# Altium integrated library Altera MAX 7000S.IntLib: 338 symbols (part 2 of 20)
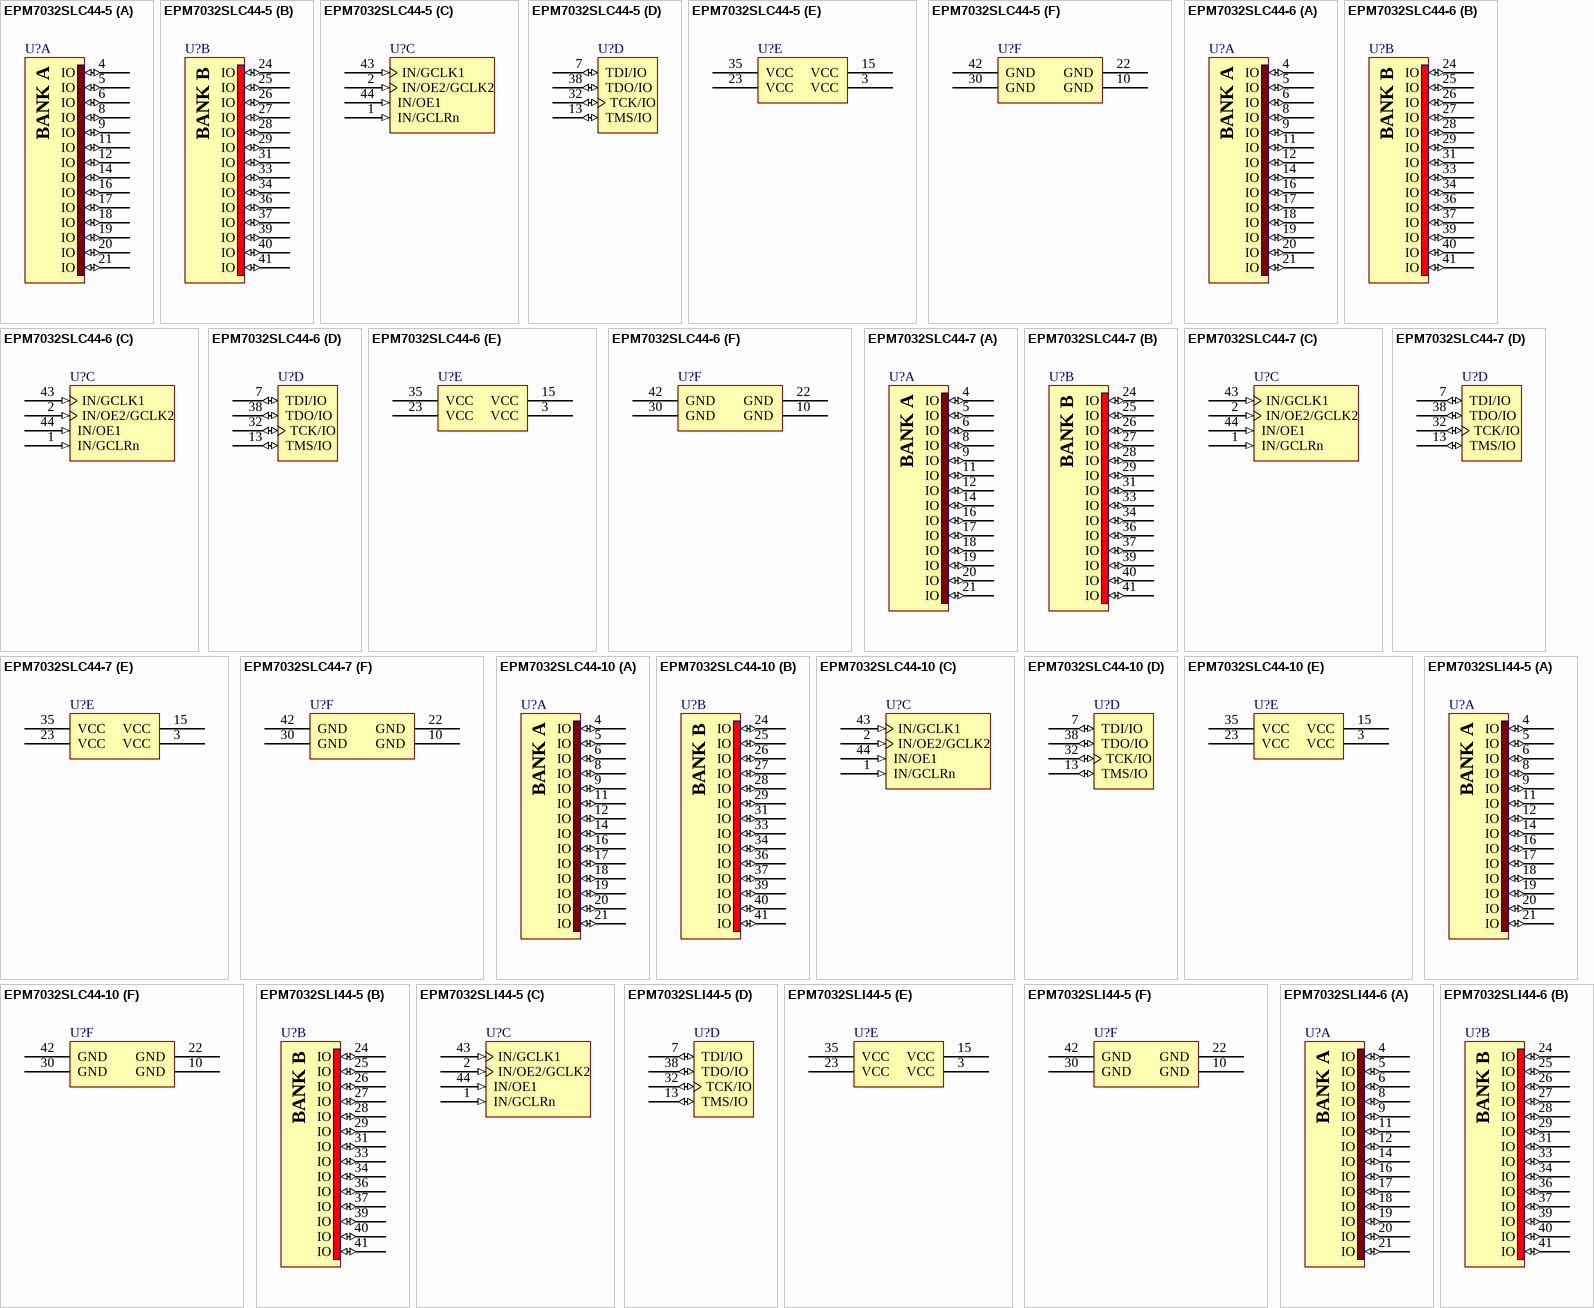
[diagram p105: symbols EPM7032SLC44-5 to EPM7032SLI44-6]

## EPM7032SLC44-7
designator U?
MAX 7000S 5V In-System Programmable CPLD, 32 Macrocells, 44-Pin PLCC, Speed Grade 7, Commercial Grade; Published: 24-Nov-2000; LatestRevisionDate: 13-Apr-2006; LatestRevisionNote: IPC-7351 Footprint Added.; DatasheetVersion: ver6.7, Sep-2005; PackageVersion: ver14.3, Jul-2006; PackageReference: PLCC44; Publisher: Altium Limited; PackageDescription: 44-Pin Plastic J-Lead Chip Carrier (PLCC44); Supplier 1: Digi-Key; Supplier Part Number 1: 544-1183-5-ND; Code_JEDEC: MS-018-AC; Code_IPC: PLCC-44; ComponentLink1Description: Manufacturer Link; ComponentLink1URL: http://www.altera.com/products/devices/max7k/m7k-index.html; ComponentLink2Description: Datasheet; ComponentLink2URL: http://www.altera.com/literature/ds/m7000.pdf; ComponentLink3Description: Packaging Specification; ComponentLink3URL: http://www.altera.com/literature/ds/dspkg.pdf
footprint PLCC44_N (Leaded Chip Carrier, 44-Leads, Body 16.6x16.6mm, Pitch 1.27mm, IPC Medium Density)
footprint PLCC44_L (Leaded Chip Carrier, 44-Leads, Body 16.6x16.6mm, Pitch 1.27mm, IPC High Density)
footprint PLCC44_M (Leaded Chip Carrier, 44-Leads, Body 16.6x16.6mm, Pitch 1.27mm, IPC Low Density)
3D model EPM7032S-PLCC44 (44-Pin Plastic J-Lead Chip Carrier (PLCC44))
signal-integrity model 7k (MAX 7000S)
part A pins: 4 IO (io), 5 IO (io), 6 IO (io), 8 IO (io), 9 IO (io), 11 IO (io), 12 IO (io), 14 IO (io), 16 IO (io), 17 IO (io), 18 IO (io), 19 IO (io), 20 IO (io), 21 IO (io)
part B pins: 24 IO (io), 25 IO (io), 26 IO (io), 27 IO (io), 28 IO (io), 29 IO (io), 31 IO (io), 33 IO (io), 34 IO (io), 36 IO (io), 37 IO (io), 39 IO (io), 40 IO (io), 41 IO (io)
part C pins: 1 IN/GCLRn (in), 2 IN/OE2/GCLK2 (in), 43 IN/GCLK1 (in), 44 IN/OE1 (in)
part D pins: 7 TDI/IO (io), 13 TMS/IO (io), 32 TCK/IO (io), 38 TDO/IO (io)
part E pins: 3 VCC (power), 15 VCC (power), 23 VCC (power), 35 VCC (power)
part F pins: 10 GND (power), 22 GND (power), 30 GND (power), 42 GND (power)
part A text: BANK A
part B text: BANK B

## EPM7032SLC44-10
designator U?
MAX 7000S 5V In-System Programmable CPLD, 32 Macrocells, 44-Pin PLCC, Speed Grade 10, Commercial Grade; Published: 24-Nov-2000; LatestRevisionDate: 13-Apr-2006; LatestRevisionNote: IPC-7351 Footprint Added.; DatasheetVersion: ver6.7, Sep-2005; PackageVersion: ver14.3, Jul-2006; PackageReference: PLCC44; Publisher: Altium Limited; PackageDescription: 44-Pin Plastic J-Lead Chip Carrier (PLCC44); Supplier 1: Digi-Key; Supplier Part Number 1: 544-1182-5-ND; Supplier 2: Farnell; Supplier Part Number 2: 3005800; Code_JEDEC: MS-018-AC; Code_IPC: PLCC-44; ComponentLink1Description: Manufacturer Link; ComponentLink1URL: http://www.altera.com/products/devices/max7k/m7k-index.html; ComponentLink2Description: Datasheet; ComponentLink2URL: http://www.altera.com/literature/ds/m7000.pdf; ComponentLink3Description: Packaging Specification; ComponentLink3URL: http://www.altera.com/literature/ds/dspkg.pdf
footprint PLCC44_N (Leaded Chip Carrier, 44-Leads, Body 16.6x16.6mm, Pitch 1.27mm, IPC Medium Density)
footprint PLCC44_L (Leaded Chip Carrier, 44-Leads, Body 16.6x16.6mm, Pitch 1.27mm, IPC High Density)
footprint PLCC44_M (Leaded Chip Carrier, 44-Leads, Body 16.6x16.6mm, Pitch 1.27mm, IPC Low Density)
3D model EPM7032S-PLCC44 (44-Pin Plastic J-Lead Chip Carrier (PLCC44))
signal-integrity model 7k (MAX 7000S)
part A pins: 4 IO (io), 5 IO (io), 6 IO (io), 8 IO (io), 9 IO (io), 11 IO (io), 12 IO (io), 14 IO (io), 16 IO (io), 17 IO (io), 18 IO (io), 19 IO (io), 20 IO (io), 21 IO (io)
part B pins: 24 IO (io), 25 IO (io), 26 IO (io), 27 IO (io), 28 IO (io), 29 IO (io), 31 IO (io), 33 IO (io), 34 IO (io), 36 IO (io), 37 IO (io), 39 IO (io), 40 IO (io), 41 IO (io)
part C pins: 1 IN/GCLRn (in), 2 IN/OE2/GCLK2 (in), 43 IN/GCLK1 (in), 44 IN/OE1 (in)
part D pins: 7 TDI/IO (io), 13 TMS/IO (io), 32 TCK/IO (io), 38 TDO/IO (io)
part E pins: 3 VCC (power), 15 VCC (power), 23 VCC (power), 35 VCC (power)
part F pins: 10 GND (power), 22 GND (power), 30 GND (power), 42 GND (power)
part A text: BANK A
part B text: BANK B

## EPM7032SLI44-5
designator U?
MAX 7000S 5V In-System Programmable CPLD, 32 Macrocells, 44-Pin PLCC, Speed Grade 5, Industrial Grade; Published: 17-Sep-2003; LatestRevisionDate: 13-Apr-2006; LatestRevisionNote: IPC-7351 Footprint Added.; DatasheetVersion: ver6.7, Sep-2005; PackageVersion: ver14.3, Jul-2006; PackageReference: PLCC44; Publisher: Altium Limited; PackageDescription: 44-Pin Plastic J-Lead Chip Carrier (PLCC44); Code_JEDEC: MS-018-AC; Code_IPC: PLCC-44; ComponentLink1Description: Manufacturer Link; ComponentLink1URL: http://www.altera.com/products/devices/max7k/m7k-index.html; ComponentLink2Description: Datasheet; ComponentLink2URL: http://www.altera.com/literature/ds/m7000.pdf; ComponentLink3Description: Packaging Specification; ComponentLink3URL: http://www.altera.com/literature/ds/dspkg.pdf
footprint PLCC44_N (Leaded Chip Carrier, 44-Leads, Body 16.6x16.6mm, Pitch 1.27mm, IPC Medium Density)
footprint PLCC44_L (Leaded Chip Carrier, 44-Leads, Body 16.6x16.6mm, Pitch 1.27mm, IPC High Density)
footprint PLCC44_M (Leaded Chip Carrier, 44-Leads, Body 16.6x16.6mm, Pitch 1.27mm, IPC Low Density)
3D model EPM7032S-PLCC44 (44-Pin Plastic J-Lead Chip Carrier (PLCC44))
signal-integrity model 7k (MAX 7000S)
part A pins: 4 IO (io), 5 IO (io), 6 IO (io), 8 IO (io), 9 IO (io), 11 IO (io), 12 IO (io), 14 IO (io), 16 IO (io), 17 IO (io), 18 IO (io), 19 IO (io), 20 IO (io), 21 IO (io)
part B pins: 24 IO (io), 25 IO (io), 26 IO (io), 27 IO (io), 28 IO (io), 29 IO (io), 31 IO (io), 33 IO (io), 34 IO (io), 36 IO (io), 37 IO (io), 39 IO (io), 40 IO (io), 41 IO (io)
part C pins: 1 IN/GCLRn (in), 2 IN/OE2/GCLK2 (in), 43 IN/GCLK1 (in), 44 IN/OE1 (in)
part D pins: 7 TDI/IO (io), 13 TMS/IO (io), 32 TCK/IO (io), 38 TDO/IO (io)
part E pins: 3 VCC (power), 15 VCC (power), 23 VCC (power), 35 VCC (power)
part F pins: 10 GND (power), 22 GND (power), 30 GND (power), 42 GND (power)
part A text: BANK A
part B text: BANK B

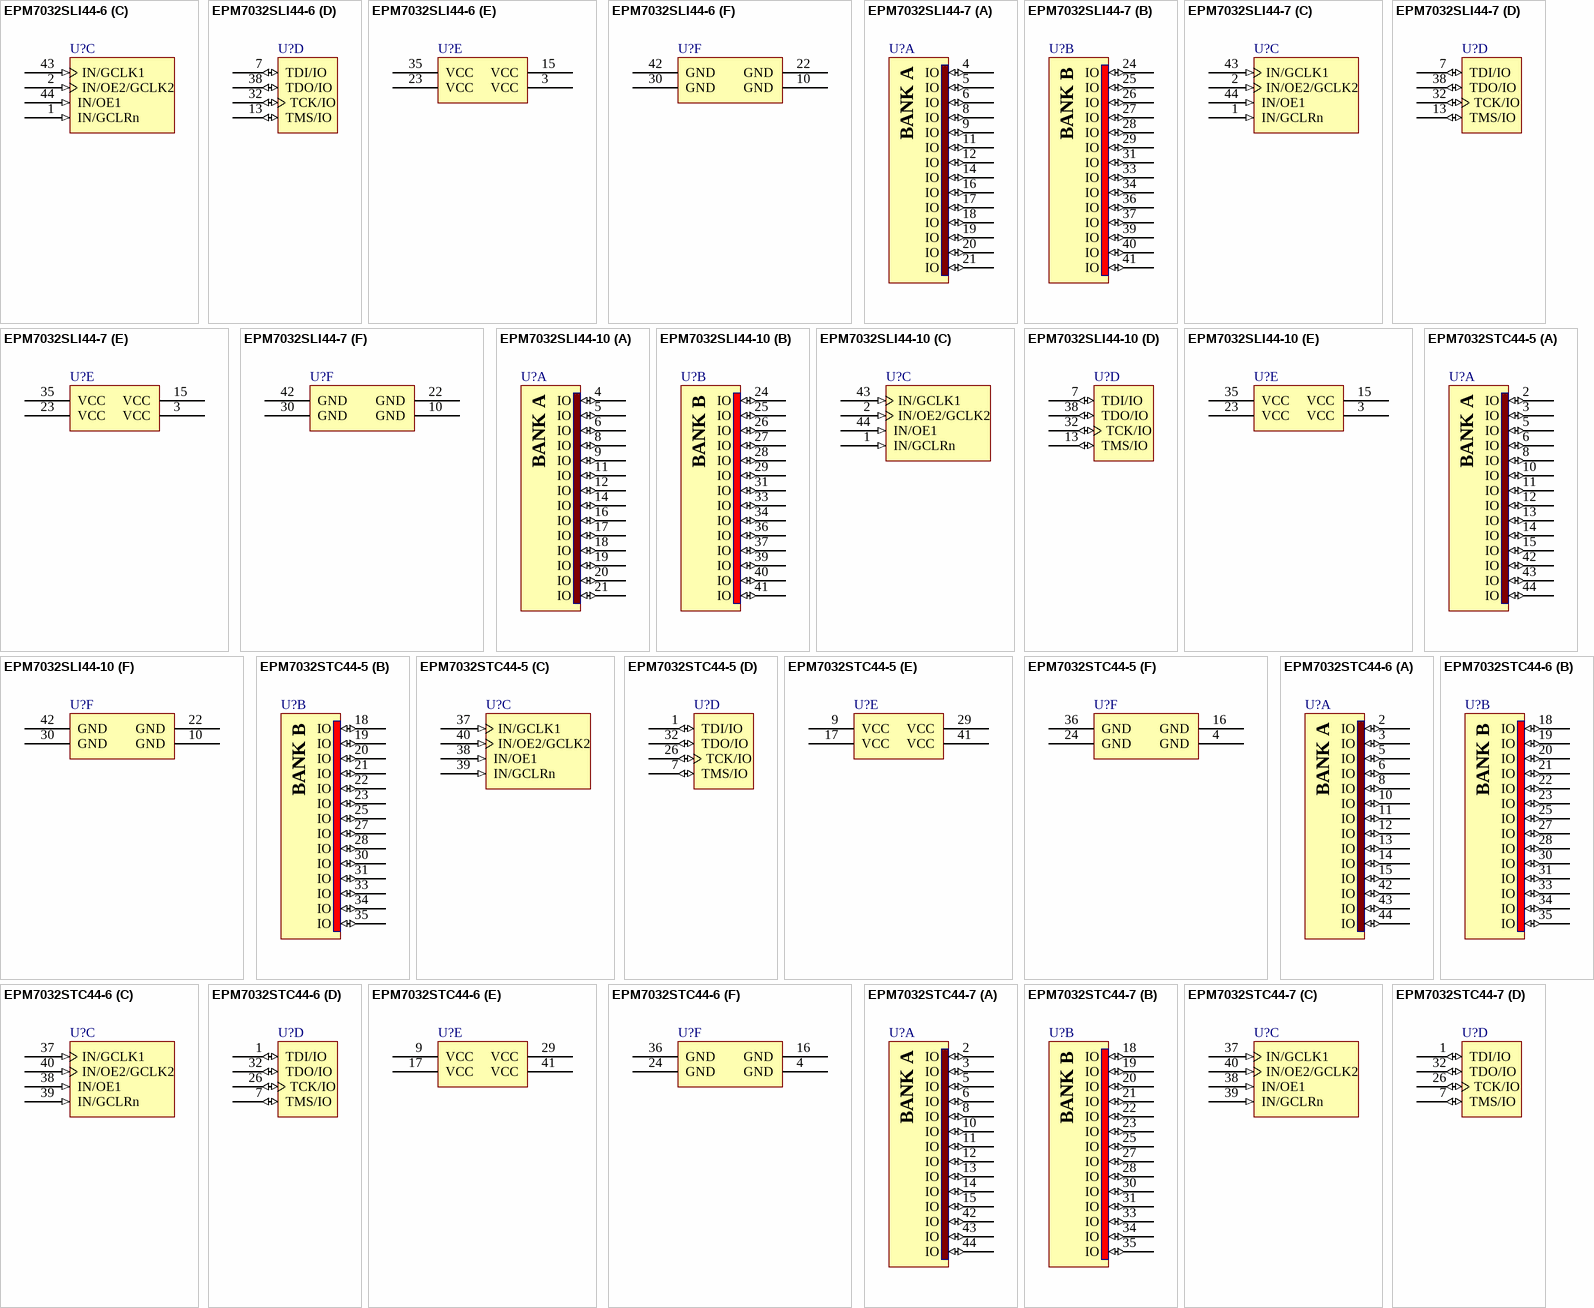
[diagram p5: symbols EPM7032SLI44-6 to EPM7032STC44-7]

## EPM7032SLI44-6
designator U?
MAX 7000S 5V In-System Programmable CPLD, 32 Macrocells, 44-Pin PLCC, Speed Grade 6, Industrial Grade; Published: 17-Sep-2003; LatestRevisionDate: 13-Apr-2006; LatestRevisionNote: IPC-7351 Footprint Added.; DatasheetVersion: ver6.7, Sep-2005; PackageVersion: ver14.3, Jul-2006; PackageReference: PLCC44; Publisher: Altium Limited; PackageDescription: 44-Pin Plastic J-Lead Chip Carrier (PLCC44); Code_JEDEC: MS-018-AC; Code_IPC: PLCC-44; ComponentLink1Description: Manufacturer Link; ComponentLink1URL: http://www.altera.com/products/devices/max7k/m7k-index.html; ComponentLink2Description: Datasheet; ComponentLink2URL: http://www.altera.com/literature/ds/m7000.pdf; ComponentLink3Description: Packaging Specification; ComponentLink3URL: http://www.altera.com/literature/ds/dspkg.pdf
footprint PLCC44_N (Leaded Chip Carrier, 44-Leads, Body 16.6x16.6mm, Pitch 1.27mm, IPC Medium Density)
footprint PLCC44_L (Leaded Chip Carrier, 44-Leads, Body 16.6x16.6mm, Pitch 1.27mm, IPC High Density)
footprint PLCC44_M (Leaded Chip Carrier, 44-Leads, Body 16.6x16.6mm, Pitch 1.27mm, IPC Low Density)
3D model EPM7032S-PLCC44 (44-Pin Plastic J-Lead Chip Carrier (PLCC44))
signal-integrity model 7k (MAX 7000S)
part A pins: 4 IO (io), 5 IO (io), 6 IO (io), 8 IO (io), 9 IO (io), 11 IO (io), 12 IO (io), 14 IO (io), 16 IO (io), 17 IO (io), 18 IO (io), 19 IO (io), 20 IO (io), 21 IO (io)
part B pins: 24 IO (io), 25 IO (io), 26 IO (io), 27 IO (io), 28 IO (io), 29 IO (io), 31 IO (io), 33 IO (io), 34 IO (io), 36 IO (io), 37 IO (io), 39 IO (io), 40 IO (io), 41 IO (io)
part C pins: 1 IN/GCLRn (in), 2 IN/OE2/GCLK2 (in), 43 IN/GCLK1 (in), 44 IN/OE1 (in)
part D pins: 7 TDI/IO (io), 13 TMS/IO (io), 32 TCK/IO (io), 38 TDO/IO (io)
part E pins: 3 VCC (power), 15 VCC (power), 23 VCC (power), 35 VCC (power)
part F pins: 10 GND (power), 22 GND (power), 30 GND (power), 42 GND (power)
part A text: BANK A
part B text: BANK B

## EPM7032SLI44-7
designator U?
MAX 7000S 5V In-System Programmable CPLD, 32 Macrocells, 44-Pin PLCC, Speed Grade 7, Industrial Grade; Published: 17-Jul-2002; LatestRevisionDate: 13-Apr-2006; LatestRevisionNote: IPC-7351 Footprint Added.; DatasheetVersion: ver6.7, Sep-2005; PackageVersion: ver14.3, Jul-2006; PackageReference: PLCC44; Publisher: Altium Limited; PackageDescription: 44-Pin Plastic J-Lead Chip Carrier (PLCC44); Supplier 1: Digi-Key; Supplier Part Number 1: 544-1184-5-ND; Code_JEDEC: MS-018-AC; Code_IPC: PLCC-44; ComponentLink1Description: Manufacturer Link; ComponentLink1URL: http://www.altera.com/products/devices/max7k/m7k-index.html; ComponentLink2Description: Datasheet; ComponentLink2URL: http://www.altera.com/literature/ds/m7000.pdf; ComponentLink3Description: Packaging Specification; ComponentLink3URL: http://www.altera.com/literature/ds/dspkg.pdf
footprint PLCC44_N (Leaded Chip Carrier, 44-Leads, Body 16.6x16.6mm, Pitch 1.27mm, IPC Medium Density)
footprint PLCC44_L (Leaded Chip Carrier, 44-Leads, Body 16.6x16.6mm, Pitch 1.27mm, IPC High Density)
footprint PLCC44_M (Leaded Chip Carrier, 44-Leads, Body 16.6x16.6mm, Pitch 1.27mm, IPC Low Density)
3D model EPM7032S-PLCC44 (44-Pin Plastic J-Lead Chip Carrier (PLCC44))
signal-integrity model 7k (MAX 7000S)
part A pins: 4 IO (io), 5 IO (io), 6 IO (io), 8 IO (io), 9 IO (io), 11 IO (io), 12 IO (io), 14 IO (io), 16 IO (io), 17 IO (io), 18 IO (io), 19 IO (io), 20 IO (io), 21 IO (io)
part B pins: 24 IO (io), 25 IO (io), 26 IO (io), 27 IO (io), 28 IO (io), 29 IO (io), 31 IO (io), 33 IO (io), 34 IO (io), 36 IO (io), 37 IO (io), 39 IO (io), 40 IO (io), 41 IO (io)
part C pins: 1 IN/GCLRn (in), 2 IN/OE2/GCLK2 (in), 43 IN/GCLK1 (in), 44 IN/OE1 (in)
part D pins: 7 TDI/IO (io), 13 TMS/IO (io), 32 TCK/IO (io), 38 TDO/IO (io)
part E pins: 3 VCC (power), 15 VCC (power), 23 VCC (power), 35 VCC (power)
part F pins: 10 GND (power), 22 GND (power), 30 GND (power), 42 GND (power)
part A text: BANK A
part B text: BANK B

## EPM7032SLI44-10
designator U?
MAX 7000S 5V In-System Programmable CPLD, 32 Macrocells, 44-Pin PLCC, Speed Grade 10, Industrial Grade; Published: 24-Nov-2000; LatestRevisionDate: 13-Apr-2006; LatestRevisionNote: IPC-7351 Footprint Added.; DatasheetVersion: ver6.7, Sep-2005; PackageVersion: ver14.3, Jul-2006; PackageReference: PLCC44; Publisher: Altium Limited; PackageDescription: 44-Pin Plastic J-Lead Chip Carrier (PLCC44); Code_JEDEC: MS-018-AC; Code_IPC: PLCC-44; ComponentLink1Description: Manufacturer Link; ComponentLink1URL: http://www.altera.com/products/devices/max7k/m7k-index.html; ComponentLink2Description: Datasheet; ComponentLink2URL: http://www.altera.com/literature/ds/m7000.pdf; ComponentLink3Description: Packaging Specification; ComponentLink3URL: http://www.altera.com/literature/ds/dspkg.pdf
footprint PLCC44_N (Leaded Chip Carrier, 44-Leads, Body 16.6x16.6mm, Pitch 1.27mm, IPC Medium Density)
footprint PLCC44_L (Leaded Chip Carrier, 44-Leads, Body 16.6x16.6mm, Pitch 1.27mm, IPC High Density)
footprint PLCC44_M (Leaded Chip Carrier, 44-Leads, Body 16.6x16.6mm, Pitch 1.27mm, IPC Low Density)
3D model EPM7032S-PLCC44 (44-Pin Plastic J-Lead Chip Carrier (PLCC44))
signal-integrity model 7k (MAX 7000S)
part A pins: 4 IO (io), 5 IO (io), 6 IO (io), 8 IO (io), 9 IO (io), 11 IO (io), 12 IO (io), 14 IO (io), 16 IO (io), 17 IO (io), 18 IO (io), 19 IO (io), 20 IO (io), 21 IO (io)
part B pins: 24 IO (io), 25 IO (io), 26 IO (io), 27 IO (io), 28 IO (io), 29 IO (io), 31 IO (io), 33 IO (io), 34 IO (io), 36 IO (io), 37 IO (io), 39 IO (io), 40 IO (io), 41 IO (io)
part C pins: 1 IN/GCLRn (in), 2 IN/OE2/GCLK2 (in), 43 IN/GCLK1 (in), 44 IN/OE1 (in)
part D pins: 7 TDI/IO (io), 13 TMS/IO (io), 32 TCK/IO (io), 38 TDO/IO (io)
part E pins: 3 VCC (power), 15 VCC (power), 23 VCC (power), 35 VCC (power)
part F pins: 10 GND (power), 22 GND (power), 30 GND (power), 42 GND (power)
part A text: BANK A
part B text: BANK B

## EPM7032STC44-5
designator U?
MAX 7000S 5V In-System Programmable CPLD, 32 Macrocells, 44-Pin TQFP, Speed Grade 5, Commercial Grade; Published: 24-Nov-2000; LatestRevisionDate: 13-Apr-2006; LatestRevisionNote: IPC-7351 Footprint Added.; DatasheetVersion: ver6.7, Sep-2005; PackageVersion: ver14.3, Jul-2006; PackageReference: TQFP44; Publisher: Altium Limited; PackageDescription: 44-Pin Plastic Thin Quad Flat Pack (TFQP44); Supplier 1: Digi-Key; Supplier Part Number 1: 544-2293-ND; Code_JEDEC: MS-026-ACB; ComponentLink1Description: Manufacturer Link; ComponentLink1URL: http://www.altera.com/products/devices/max7k/m7k-index.html; ComponentLink2Description: Datasheet; ComponentLink2URL: http://www.altera.com/literature/ds/m7000.pdf; ComponentLink3Description: Packaging Specification; ComponentLink3URL: http://www.altera.com/literature/ds/dspkg.pdf
footprint TQFP44_N (Thin QFP, 44-Leads, Body 10x10mm, Pitch 0.8mm, IPC Medium Density)
footprint TQFP44_L (Thin QFP, 44-Leads, Body 10x10mm, Pitch 0.8mm, IPC High Density)
footprint TQFP44_M (Thin QFP, 44-Leads, Body 10x10mm, Pitch 0.8mm, IPC Low Density)
3D model EPM7032S-TQFP44 (44-Pin Plastic Thin Quad Flat Pack (TFQP44))
signal-integrity model 7k (MAX 7000S)
part A pins: 2 IO (io), 3 IO (io), 5 IO (io), 6 IO (io), 8 IO (io), 10 IO (io), 11 IO (io), 12 IO (io), 13 IO (io), 14 IO (io), 15 IO (io), 42 IO (io), 43 IO (io), 44 IO (io)
part B pins: 18 IO (io), 19 IO (io), 20 IO (io), 21 IO (io), 22 IO (io), 23 IO (io), 25 IO (io), 27 IO (io), 28 IO (io), 30 IO (io), 31 IO (io), 33 IO (io), 34 IO (io), 35 IO (io)
part C pins: 37 IN/GCLK1 (in), 38 IN/OE1 (in), 39 IN/GCLRn (in), 40 IN/OE2/GCLK2 (in)
part D pins: 1 TDI/IO (io), 7 TMS/IO (io), 26 TCK/IO (io), 32 TDO/IO (io)
part E pins: 9 VCC (power), 17 VCC (power), 29 VCC (power), 41 VCC (power)
part F pins: 4 GND (power), 16 GND (power), 24 GND (power), 36 GND (power)
part A text: BANK A
part B text: BANK B

## EPM7032STC44-6
designator U?
MAX 7000S 5V In-System Programmable CPLD, 32 Macrocells, 44-Pin TQFP, Speed Grade 6, Commercial Grade; Published: 24-Nov-2000; LatestRevisionDate: 13-Apr-2006; LatestRevisionNote: IPC-7351 Footprint Added.; DatasheetVersion: ver6.7, Sep-2005; PackageVersion: ver14.3, Jul-2006; PackageReference: TQFP44; Publisher: Altium Limited; PackageDescription: 44-Pin Plastic Thin Quad Flat Pack (TFQP44); Supplier 1: Digi-Key; Supplier Part Number 1: EPM7032STC44-6-ND; Code_JEDEC: MS-026-ACB; ComponentLink1Description: Manufacturer Link; ComponentLink1URL: http://www.altera.com/products/devices/max7k/m7k-index.html; ComponentLink2Description: Datasheet; ComponentLink2URL: http://www.altera.com/literature/ds/m7000.pdf; ComponentLink3Description: Packaging Specification; ComponentLink3URL: http://www.altera.com/literature/ds/dspkg.pdf
footprint TQFP44_N (Thin QFP, 44-Leads, Body 10x10mm, Pitch 0.8mm, IPC Medium Density)
footprint TQFP44_L (Thin QFP, 44-Leads, Body 10x10mm, Pitch 0.8mm, IPC High Density)
footprint TQFP44_M (Thin QFP, 44-Leads, Body 10x10mm, Pitch 0.8mm, IPC Low Density)
3D model EPM7032S-TQFP44 (44-Pin Plastic Thin Quad Flat Pack (TFQP44))
signal-integrity model 7k (MAX 7000S)
part A pins: 2 IO (io), 3 IO (io), 5 IO (io), 6 IO (io), 8 IO (io), 10 IO (io), 11 IO (io), 12 IO (io), 13 IO (io), 14 IO (io), 15 IO (io), 42 IO (io), 43 IO (io), 44 IO (io)
part B pins: 18 IO (io), 19 IO (io), 20 IO (io), 21 IO (io), 22 IO (io), 23 IO (io), 25 IO (io), 27 IO (io), 28 IO (io), 30 IO (io), 31 IO (io), 33 IO (io), 34 IO (io), 35 IO (io)
part C pins: 37 IN/GCLK1 (in), 38 IN/OE1 (in), 39 IN/GCLRn (in), 40 IN/OE2/GCLK2 (in)
part D pins: 1 TDI/IO (io), 7 TMS/IO (io), 26 TCK/IO (io), 32 TDO/IO (io)
part E pins: 9 VCC (power), 17 VCC (power), 29 VCC (power), 41 VCC (power)
part F pins: 4 GND (power), 16 GND (power), 24 GND (power), 36 GND (power)
part A text: BANK A
part B text: BANK B

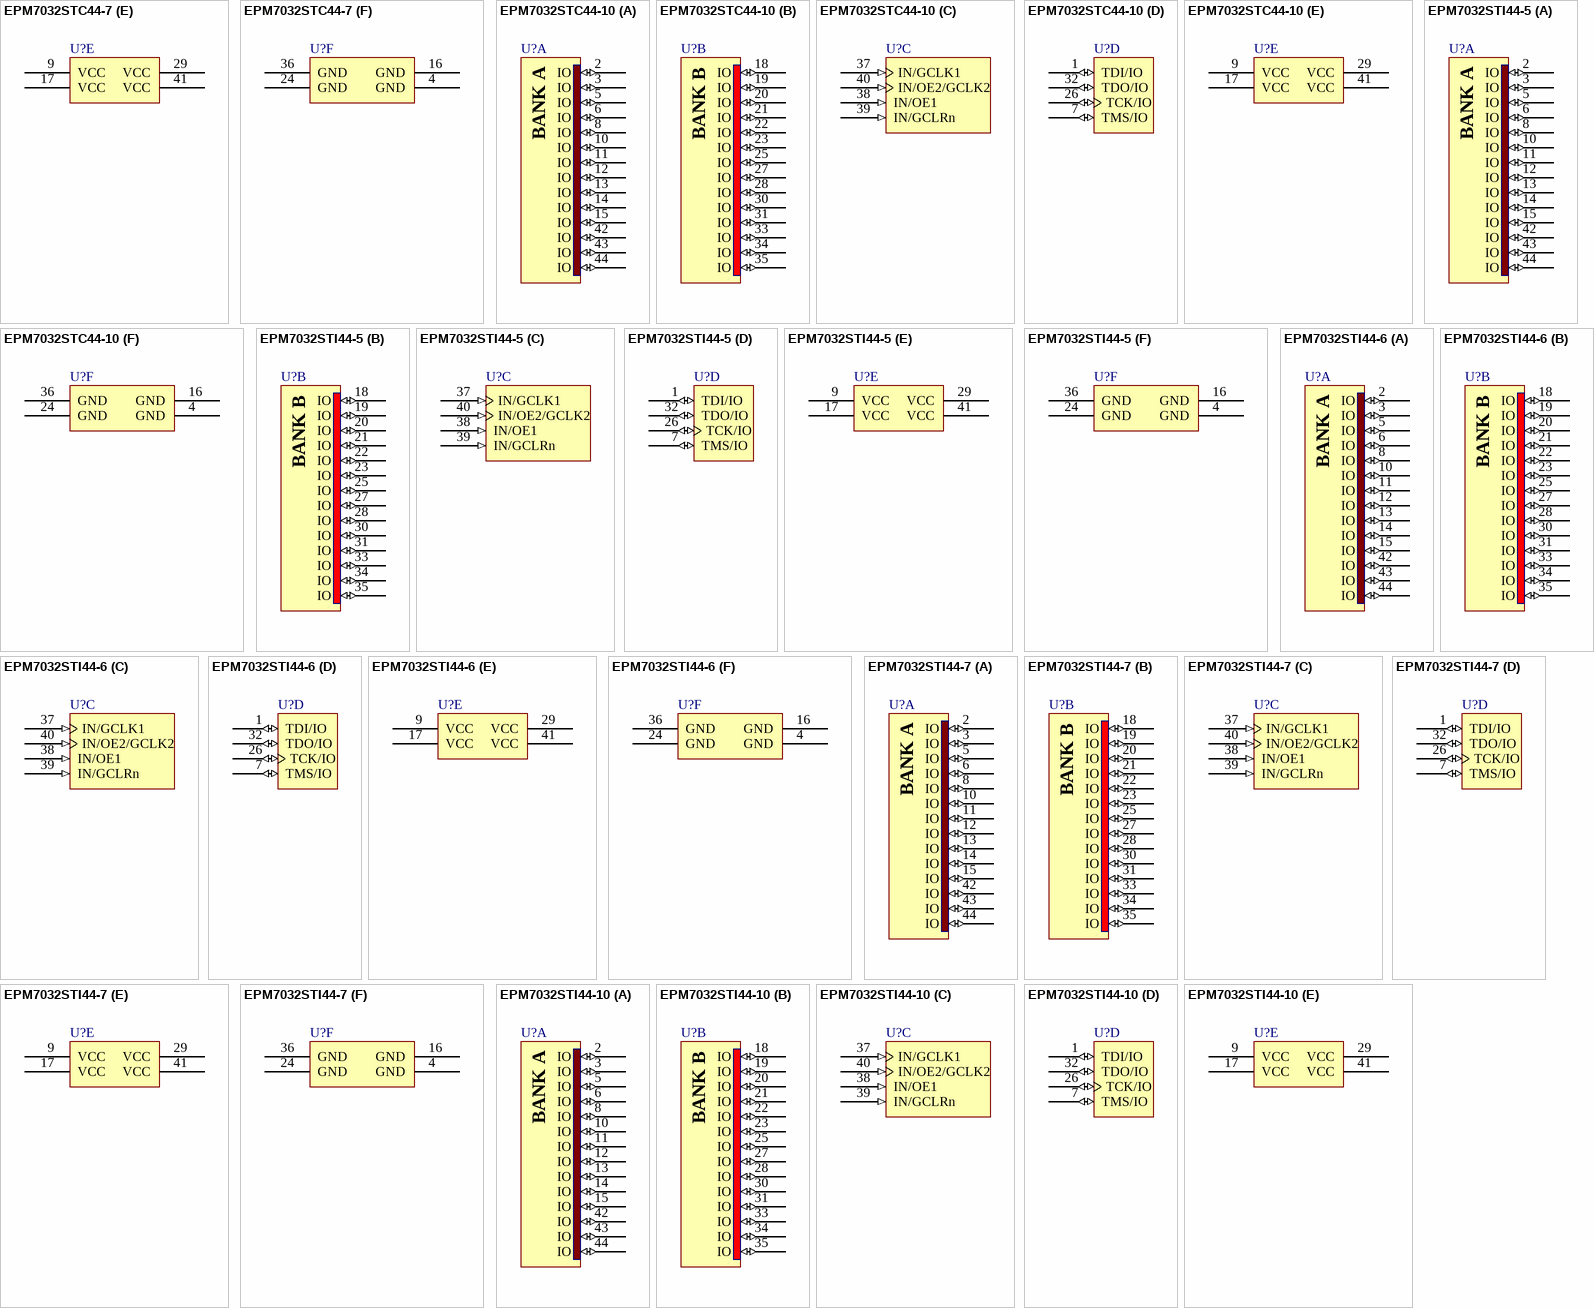
[diagram p6: symbols EPM7032STC44-7 to EPM7032STI44-10]

## EPM7032STC44-7
designator U?
MAX 7000S 5V In-System Programmable CPLD, 32 Macrocells, 44-Pin TQFP, Speed Grade 7, Commercial Grade; Published: 24-Nov-2000; LatestRevisionDate: 13-Apr-2006; LatestRevisionNote: IPC-7351 Footprint Added.; DatasheetVersion: ver6.7, Sep-2005; PackageVersion: ver14.3, Jul-2006; PackageReference: TQFP44; Publisher: Altium Limited; PackageDescription: 44-Pin Plastic Thin Quad Flat Pack (TFQP44); Supplier 1: Digi-Key; Supplier Part Number 1: 544-1186-ND; Code_JEDEC: MS-026-ACB; ComponentLink1Description: Manufacturer Link; ComponentLink1URL: http://www.altera.com/products/devices/max7k/m7k-index.html; ComponentLink2Description: Datasheet; ComponentLink2URL: http://www.altera.com/literature/ds/m7000.pdf; ComponentLink3Description: Packaging Specification; ComponentLink3URL: http://www.altera.com/literature/ds/dspkg.pdf
footprint TQFP44_N (Thin QFP, 44-Leads, Body 10x10mm, Pitch 0.8mm, IPC Medium Density)
footprint TQFP44_L (Thin QFP, 44-Leads, Body 10x10mm, Pitch 0.8mm, IPC High Density)
footprint TQFP44_M (Thin QFP, 44-Leads, Body 10x10mm, Pitch 0.8mm, IPC Low Density)
3D model EPM7032S-TQFP44 (44-Pin Plastic Thin Quad Flat Pack (TFQP44))
signal-integrity model 7k (MAX 7000S)
part A pins: 2 IO (io), 3 IO (io), 5 IO (io), 6 IO (io), 8 IO (io), 10 IO (io), 11 IO (io), 12 IO (io), 13 IO (io), 14 IO (io), 15 IO (io), 42 IO (io), 43 IO (io), 44 IO (io)
part B pins: 18 IO (io), 19 IO (io), 20 IO (io), 21 IO (io), 22 IO (io), 23 IO (io), 25 IO (io), 27 IO (io), 28 IO (io), 30 IO (io), 31 IO (io), 33 IO (io), 34 IO (io), 35 IO (io)
part C pins: 37 IN/GCLK1 (in), 38 IN/OE1 (in), 39 IN/GCLRn (in), 40 IN/OE2/GCLK2 (in)
part D pins: 1 TDI/IO (io), 7 TMS/IO (io), 26 TCK/IO (io), 32 TDO/IO (io)
part E pins: 9 VCC (power), 17 VCC (power), 29 VCC (power), 41 VCC (power)
part F pins: 4 GND (power), 16 GND (power), 24 GND (power), 36 GND (power)
part A text: BANK A
part B text: BANK B

## EPM7032STC44-10
designator U?
MAX 7000S 5V In-System Programmable CPLD, 32 Macrocells, 44-Pin TQFP, Speed Grade 10, Commercial Grade; Published: 24-Nov-2000; LatestRevisionDate: 13-Apr-2006; LatestRevisionNote: IPC-7351 Footprint Added.; DatasheetVersion: ver6.7, Sep-2005; PackageVersion: ver14.3, Jul-2006; PackageReference: TQFP44; Publisher: Altium Limited; PackageDescription: 44-Pin Plastic Thin Quad Flat Pack (TFQP44); Supplier 1: Digi-Key; Supplier Part Number 1: 544-1185-ND; Supplier 2: Farnell; Supplier Part Number 2: 3005823; Code_JEDEC: MS-026-ACB; ComponentLink1Description: Manufacturer Link; ComponentLink1URL: http://www.altera.com/products/devices/max7k/m7k-index.html; ComponentLink2Description: Datasheet; ComponentLink2URL: http://www.altera.com/literature/ds/m7000.pdf; ComponentLink3Description: Packaging Specification; ComponentLink3URL: http://www.altera.com/literature/ds/dspkg.pdf
footprint TQFP44_N (Thin QFP, 44-Leads, Body 10x10mm, Pitch 0.8mm, IPC Medium Density)
footprint TQFP44_L (Thin QFP, 44-Leads, Body 10x10mm, Pitch 0.8mm, IPC High Density)
footprint TQFP44_M (Thin QFP, 44-Leads, Body 10x10mm, Pitch 0.8mm, IPC Low Density)
3D model EPM7032S-TQFP44 (44-Pin Plastic Thin Quad Flat Pack (TFQP44))
signal-integrity model 7k (MAX 7000S)
part A pins: 2 IO (io), 3 IO (io), 5 IO (io), 6 IO (io), 8 IO (io), 10 IO (io), 11 IO (io), 12 IO (io), 13 IO (io), 14 IO (io), 15 IO (io), 42 IO (io), 43 IO (io), 44 IO (io)
part B pins: 18 IO (io), 19 IO (io), 20 IO (io), 21 IO (io), 22 IO (io), 23 IO (io), 25 IO (io), 27 IO (io), 28 IO (io), 30 IO (io), 31 IO (io), 33 IO (io), 34 IO (io), 35 IO (io)
part C pins: 37 IN/GCLK1 (in), 38 IN/OE1 (in), 39 IN/GCLRn (in), 40 IN/OE2/GCLK2 (in)
part D pins: 1 TDI/IO (io), 7 TMS/IO (io), 26 TCK/IO (io), 32 TDO/IO (io)
part E pins: 9 VCC (power), 17 VCC (power), 29 VCC (power), 41 VCC (power)
part F pins: 4 GND (power), 16 GND (power), 24 GND (power), 36 GND (power)
part A text: BANK A
part B text: BANK B

## EPM7032STI44-5
designator U?
MAX 7000S 5V In-System Programmable CPLD, 32 Macrocells, 44-Pin TQFP, Speed Grade 5, Industrial Grade; Published: 17-Sep-2003; LatestRevisionDate: 13-Apr-2006; LatestRevisionNote: IPC-7351 Footprint Added.; DatasheetVersion: ver6.7, Sep-2005; PackageVersion: ver14.3, Jul-2006; PackageReference: TQFP44; Publisher: Altium Limited; PackageDescription: 44-Pin Plastic Thin Quad Flat Pack (TFQP44); Code_JEDEC: MS-026-ACB; ComponentLink1Description: Manufacturer Link; ComponentLink1URL: http://www.altera.com/products/devices/max7k/m7k-index.html; ComponentLink2Description: Datasheet; ComponentLink2URL: http://www.altera.com/literature/ds/m7000.pdf; ComponentLink3Description: Packaging Specification; ComponentLink3URL: http://www.altera.com/literature/ds/dspkg.pdf
footprint TQFP44_N (Thin QFP, 44-Leads, Body 10x10mm, Pitch 0.8mm, IPC Medium Density)
footprint TQFP44_L (Thin QFP, 44-Leads, Body 10x10mm, Pitch 0.8mm, IPC High Density)
footprint TQFP44_M (Thin QFP, 44-Leads, Body 10x10mm, Pitch 0.8mm, IPC Low Density)
3D model EPM7032S-TQFP44 (44-Pin Plastic Thin Quad Flat Pack (TFQP44))
signal-integrity model 7k (MAX 7000S)
part A pins: 2 IO (io), 3 IO (io), 5 IO (io), 6 IO (io), 8 IO (io), 10 IO (io), 11 IO (io), 12 IO (io), 13 IO (io), 14 IO (io), 15 IO (io), 42 IO (io), 43 IO (io), 44 IO (io)
part B pins: 18 IO (io), 19 IO (io), 20 IO (io), 21 IO (io), 22 IO (io), 23 IO (io), 25 IO (io), 27 IO (io), 28 IO (io), 30 IO (io), 31 IO (io), 33 IO (io), 34 IO (io), 35 IO (io)
part C pins: 37 IN/GCLK1 (in), 38 IN/OE1 (in), 39 IN/GCLRn (in), 40 IN/OE2/GCLK2 (in)
part D pins: 1 TDI/IO (io), 7 TMS/IO (io), 26 TCK/IO (io), 32 TDO/IO (io)
part E pins: 9 VCC (power), 17 VCC (power), 29 VCC (power), 41 VCC (power)
part F pins: 4 GND (power), 16 GND (power), 24 GND (power), 36 GND (power)
part A text: BANK A
part B text: BANK B

## EPM7032STI44-6
designator U?
MAX 7000S 5V In-System Programmable CPLD, 32 Macrocells, 44-Pin TQFP, Speed Grade 6, Industrial Grade; Published: 17-Sep-2003; LatestRevisionDate: 13-Apr-2006; LatestRevisionNote: IPC-7351 Footprint Added.; DatasheetVersion: ver6.7, Sep-2005; PackageVersion: ver14.3, Jul-2006; PackageReference: TQFP44; Publisher: Altium Limited; PackageDescription: 44-Pin Plastic Thin Quad Flat Pack (TFQP44); Code_JEDEC: MS-026-ACB; ComponentLink1Description: Manufacturer Link; ComponentLink1URL: http://www.altera.com/products/devices/max7k/m7k-index.html; ComponentLink2Description: Datasheet; ComponentLink2URL: http://www.altera.com/literature/ds/m7000.pdf; ComponentLink3Description: Packaging Specification; ComponentLink3URL: http://www.altera.com/literature/ds/dspkg.pdf
footprint TQFP44_N (Thin QFP, 44-Leads, Body 10x10mm, Pitch 0.8mm, IPC Medium Density)
footprint TQFP44_L (Thin QFP, 44-Leads, Body 10x10mm, Pitch 0.8mm, IPC High Density)
footprint TQFP44_M (Thin QFP, 44-Leads, Body 10x10mm, Pitch 0.8mm, IPC Low Density)
3D model EPM7032S-TQFP44 (44-Pin Plastic Thin Quad Flat Pack (TFQP44))
signal-integrity model 7k (MAX 7000S)
part A pins: 2 IO (io), 3 IO (io), 5 IO (io), 6 IO (io), 8 IO (io), 10 IO (io), 11 IO (io), 12 IO (io), 13 IO (io), 14 IO (io), 15 IO (io), 42 IO (io), 43 IO (io), 44 IO (io)
part B pins: 18 IO (io), 19 IO (io), 20 IO (io), 21 IO (io), 22 IO (io), 23 IO (io), 25 IO (io), 27 IO (io), 28 IO (io), 30 IO (io), 31 IO (io), 33 IO (io), 34 IO (io), 35 IO (io)
part C pins: 37 IN/GCLK1 (in), 38 IN/OE1 (in), 39 IN/GCLRn (in), 40 IN/OE2/GCLK2 (in)
part D pins: 1 TDI/IO (io), 7 TMS/IO (io), 26 TCK/IO (io), 32 TDO/IO (io)
part E pins: 9 VCC (power), 17 VCC (power), 29 VCC (power), 41 VCC (power)
part F pins: 4 GND (power), 16 GND (power), 24 GND (power), 36 GND (power)
part A text: BANK A
part B text: BANK B

## EPM7032STI44-7
designator U?
MAX 7000S 5V In-System Programmable CPLD, 32 Macrocells, 44-Pin TQFP, Speed Grade 7, Industrial Grade; Published: 17-Jul-2002; LatestRevisionDate: 13-Apr-2006; LatestRevisionNote: IPC-7351 Footprint Added.; DatasheetVersion: ver6.7, Sep-2005; PackageVersion: ver14.3, Jul-2006; PackageReference: TQFP44; Publisher: Altium Limited; PackageDescription: 44-Pin Plastic Thin Quad Flat Pack (TFQP44); Supplier 1: Digi-Key; Supplier Part Number 1: 544-1187-ND; Code_JEDEC: MS-026-ACB; ComponentLink1Description: Manufacturer Link; ComponentLink1URL: http://www.altera.com/products/devices/max7k/m7k-index.html; ComponentLink2Description: Datasheet; ComponentLink2URL: http://www.altera.com/literature/ds/m7000.pdf; ComponentLink3Description: Packaging Specification; ComponentLink3URL: http://www.altera.com/literature/ds/dspkg.pdf
footprint TQFP44_N (Thin QFP, 44-Leads, Body 10x10mm, Pitch 0.8mm, IPC Medium Density)
footprint TQFP44_L (Thin QFP, 44-Leads, Body 10x10mm, Pitch 0.8mm, IPC High Density)
footprint TQFP44_M (Thin QFP, 44-Leads, Body 10x10mm, Pitch 0.8mm, IPC Low Density)
3D model EPM7032S-TQFP44 (44-Pin Plastic Thin Quad Flat Pack (TFQP44))
signal-integrity model 7k (MAX 7000S)
part A pins: 2 IO (io), 3 IO (io), 5 IO (io), 6 IO (io), 8 IO (io), 10 IO (io), 11 IO (io), 12 IO (io), 13 IO (io), 14 IO (io), 15 IO (io), 42 IO (io), 43 IO (io), 44 IO (io)
part B pins: 18 IO (io), 19 IO (io), 20 IO (io), 21 IO (io), 22 IO (io), 23 IO (io), 25 IO (io), 27 IO (io), 28 IO (io), 30 IO (io), 31 IO (io), 33 IO (io), 34 IO (io), 35 IO (io)
part C pins: 37 IN/GCLK1 (in), 38 IN/OE1 (in), 39 IN/GCLRn (in), 40 IN/OE2/GCLK2 (in)
part D pins: 1 TDI/IO (io), 7 TMS/IO (io), 26 TCK/IO (io), 32 TDO/IO (io)
part E pins: 9 VCC (power), 17 VCC (power), 29 VCC (power), 41 VCC (power)
part F pins: 4 GND (power), 16 GND (power), 24 GND (power), 36 GND (power)
part A text: BANK A
part B text: BANK B

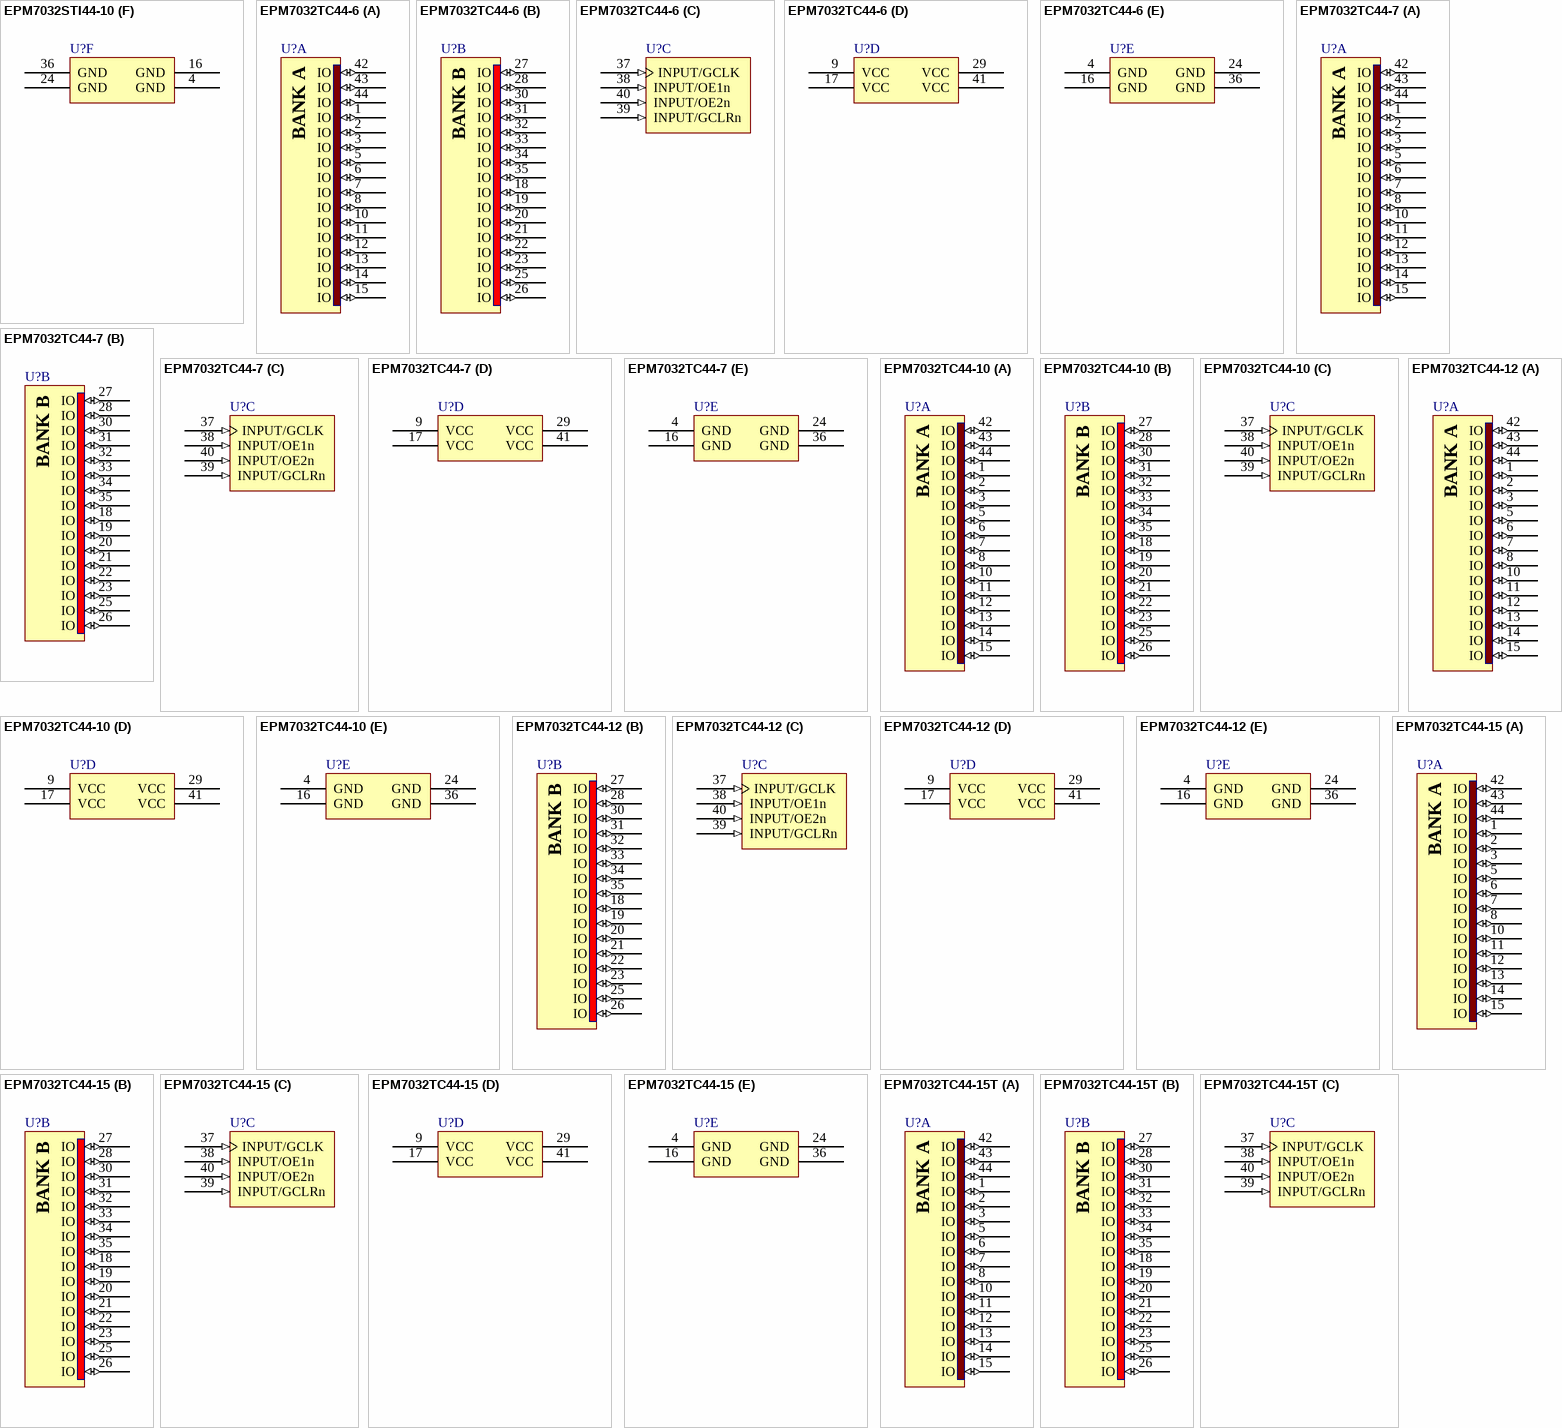
[diagram p7: symbols EPM7032STI44-10 to EPM7032TC44-15T]

## EPM7032STI44-10
designator U?
MAX 7000S 5V In-System Programmable CPLD, 32 Macrocells, 44-Pin TQFP, Speed Grade 10, Industrial Grade; Published: 24-Nov-2000; LatestRevisionDate: 13-Apr-2006; LatestRevisionNote: IPC-7351 Footprint Added.; DatasheetVersion: ver6.7, Sep-2005; PackageVersion: ver14.3, Jul-2006; PackageReference: TQFP44; Publisher: Altium Limited; PackageDescription: 44-Pin Plastic Thin Quad Flat Pack (TFQP44); Code_JEDEC: MS-026-ACB; ComponentLink1Description: Manufacturer Link; ComponentLink1URL: http://www.altera.com/products/devices/max7k/m7k-index.html; ComponentLink2Description: Datasheet; ComponentLink2URL: http://www.altera.com/literature/ds/m7000.pdf; ComponentLink3Description: Packaging Specification; ComponentLink3URL: http://www.altera.com/literature/ds/dspkg.pdf
footprint TQFP44_N (Thin QFP, 44-Leads, Body 10x10mm, Pitch 0.8mm, IPC Medium Density)
footprint TQFP44_L (Thin QFP, 44-Leads, Body 10x10mm, Pitch 0.8mm, IPC High Density)
footprint TQFP44_M (Thin QFP, 44-Leads, Body 10x10mm, Pitch 0.8mm, IPC Low Density)
3D model EPM7032S-TQFP44 (44-Pin Plastic Thin Quad Flat Pack (TFQP44))
signal-integrity model 7k (MAX 7000S)
part A pins: 2 IO (io), 3 IO (io), 5 IO (io), 6 IO (io), 8 IO (io), 10 IO (io), 11 IO (io), 12 IO (io), 13 IO (io), 14 IO (io), 15 IO (io), 42 IO (io), 43 IO (io), 44 IO (io)
part B pins: 18 IO (io), 19 IO (io), 20 IO (io), 21 IO (io), 22 IO (io), 23 IO (io), 25 IO (io), 27 IO (io), 28 IO (io), 30 IO (io), 31 IO (io), 33 IO (io), 34 IO (io), 35 IO (io)
part C pins: 37 IN/GCLK1 (in), 38 IN/OE1 (in), 39 IN/GCLRn (in), 40 IN/OE2/GCLK2 (in)
part D pins: 1 TDI/IO (io), 7 TMS/IO (io), 26 TCK/IO (io), 32 TDO/IO (io)
part E pins: 9 VCC (power), 17 VCC (power), 29 VCC (power), 41 VCC (power)
part F pins: 4 GND (power), 16 GND (power), 24 GND (power), 36 GND (power)
part A text: BANK A
part B text: BANK B

## EPM7032TC44-6
designator U?
MAX 7000 5V CPLD, 32 Macrocells, 44-Pin TQFP, Speed Grade 6, Commercial Grade; Published: 24-Nov-2000; LatestRevisionDate: 13-Apr-2006; LatestRevisionNote: IPC-7351 Footprint Added.; DatasheetVersion: ver6.7, Sep-2005; PackageVersion: ver14.3, Jul-2006; PackageReference: TQFP44; Publisher: Altium Limited; PackageDescription: 44-Pin Plastic Thin Quad Flat Pack (TFQP44); Code_JEDEC: MS-026-ACB; ComponentLink1Description: Manufacturer Link; ComponentLink1URL: http://www.altera.com/products/devices/max7k/m7k-index.html; ComponentLink2Description: Datasheet; ComponentLink2URL: http://www.altera.com/literature/ds/m7000.pdf; ComponentLink3Description: Packaging Specification; ComponentLink3URL: http://www.altera.com/literature/ds/dspkg.pdf
footprint TQFP44_N (Thin QFP, 44-Leads, Body 10x10mm, Pitch 0.8mm, IPC Medium Density)
footprint TQFP44_L (Thin QFP, 44-Leads, Body 10x10mm, Pitch 0.8mm, IPC High Density)
footprint TQFP44_M (Thin QFP, 44-Leads, Body 10x10mm, Pitch 0.8mm, IPC Low Density)
3D model EPM7032-TQFP44 (44-Pin Plastic Thin Quad Flat Pack (TFQP44))
signal-integrity model 7k (MAX 7000S)
part A pins: 1 IO (io), 2 IO (io), 3 IO (io), 5 IO (io), 6 IO (io), 7 IO (io), 8 IO (io), 10 IO (io), 11 IO (io), 12 IO (io), 13 IO (io), 14 IO (io), 15 IO (io), 42 IO (io), 43 IO (io), 44 IO (io)
part B pins: 18 IO (io), 19 IO (io), 20 IO (io), 21 IO (io), 22 IO (io), 23 IO (io), 25 IO (io), 26 IO (io), 27 IO (io), 28 IO (io), 30 IO (io), 31 IO (io), 32 IO (io), 33 IO (io), 34 IO (io), 35 IO (io)
part C pins: 37 INPUT/GCLK (in), 38 INPUT/OE1n (in), 39 INPUT/GCLRn (in), 40 INPUT/OE2n (in)
part D pins: 9 VCC (power), 17 VCC (power), 29 VCC (power), 41 VCC (power)
part E pins: 4 GND (power), 16 GND (power), 24 GND (power), 36 GND (power)
part A text: BANK A
part B text: BANK B

## EPM7032TC44-7
designator U?
MAX 7000 5V CPLD, 32 Macrocells, 44-Pin TQFP, Speed Grade 7, Commercial Grade; Published: 24-Nov-2000; LatestRevisionDate: 13-Apr-2006; LatestRevisionNote: IPC-7351 Footprint Added.; DatasheetVersion: ver6.7, Sep-2005; PackageVersion: ver14.3, Jul-2006; PackageReference: TQFP44; Publisher: Altium Limited; PackageDescription: 44-Pin Plastic Thin Quad Flat Pack (TFQP44); Code_JEDEC: MS-026-ACB; ComponentLink1Description: Manufacturer Link; ComponentLink1URL: http://www.altera.com/products/devices/max7k/m7k-index.html; ComponentLink2Description: Datasheet; ComponentLink2URL: http://www.altera.com/literature/ds/m7000.pdf; ComponentLink3Description: Packaging Specification; ComponentLink3URL: http://www.altera.com/literature/ds/dspkg.pdf
footprint TQFP44_N (Thin QFP, 44-Leads, Body 10x10mm, Pitch 0.8mm, IPC Medium Density)
footprint TQFP44_L (Thin QFP, 44-Leads, Body 10x10mm, Pitch 0.8mm, IPC High Density)
footprint TQFP44_M (Thin QFP, 44-Leads, Body 10x10mm, Pitch 0.8mm, IPC Low Density)
3D model EPM7032-TQFP44 (44-Pin Plastic Thin Quad Flat Pack (TFQP44))
signal-integrity model 7k (MAX 7000S)
part A pins: 1 IO (io), 2 IO (io), 3 IO (io), 5 IO (io), 6 IO (io), 7 IO (io), 8 IO (io), 10 IO (io), 11 IO (io), 12 IO (io), 13 IO (io), 14 IO (io), 15 IO (io), 42 IO (io), 43 IO (io), 44 IO (io)
part B pins: 18 IO (io), 19 IO (io), 20 IO (io), 21 IO (io), 22 IO (io), 23 IO (io), 25 IO (io), 26 IO (io), 27 IO (io), 28 IO (io), 30 IO (io), 31 IO (io), 32 IO (io), 33 IO (io), 34 IO (io), 35 IO (io)
part C pins: 37 INPUT/GCLK (in), 38 INPUT/OE1n (in), 39 INPUT/GCLRn (in), 40 INPUT/OE2n (in)
part D pins: 9 VCC (power), 17 VCC (power), 29 VCC (power), 41 VCC (power)
part E pins: 4 GND (power), 16 GND (power), 24 GND (power), 36 GND (power)
part A text: BANK A
part B text: BANK B

## EPM7032TC44-10
designator U?
MAX 7000 5V CPLD, 32 Macrocells, 44-Pin TQFP, Speed Grade 10, Commercial Grade; Published: 24-Nov-2000; LatestRevisionDate: 13-Apr-2006; LatestRevisionNote: IPC-7351 Footprint Added.; DatasheetVersion: ver6.7, Sep-2005; PackageVersion: ver14.3, Jul-2006; PackageReference: TQFP44; Publisher: Altium Limited; PackageDescription: 44-Pin Plastic Thin Quad Flat Pack (TFQP44); Code_JEDEC: MS-026-ACB; ComponentLink1Description: Manufacturer Link; ComponentLink1URL: http://www.altera.com/products/devices/max7k/m7k-index.html; ComponentLink2Description: Datasheet; ComponentLink2URL: http://www.altera.com/literature/ds/m7000.pdf; ComponentLink3Description: Packaging Specification; ComponentLink3URL: http://www.altera.com/literature/ds/dspkg.pdf
footprint TQFP44_N (Thin QFP, 44-Leads, Body 10x10mm, Pitch 0.8mm, IPC Medium Density)
footprint TQFP44_L (Thin QFP, 44-Leads, Body 10x10mm, Pitch 0.8mm, IPC High Density)
footprint TQFP44_M (Thin QFP, 44-Leads, Body 10x10mm, Pitch 0.8mm, IPC Low Density)
3D model EPM7032-TQFP44 (44-Pin Plastic Thin Quad Flat Pack (TFQP44))
signal-integrity model 7k (MAX 7000S)
part A pins: 1 IO (io), 2 IO (io), 3 IO (io), 5 IO (io), 6 IO (io), 7 IO (io), 8 IO (io), 10 IO (io), 11 IO (io), 12 IO (io), 13 IO (io), 14 IO (io), 15 IO (io), 42 IO (io), 43 IO (io), 44 IO (io)
part B pins: 18 IO (io), 19 IO (io), 20 IO (io), 21 IO (io), 22 IO (io), 23 IO (io), 25 IO (io), 26 IO (io), 27 IO (io), 28 IO (io), 30 IO (io), 31 IO (io), 32 IO (io), 33 IO (io), 34 IO (io), 35 IO (io)
part C pins: 37 INPUT/GCLK (in), 38 INPUT/OE1n (in), 39 INPUT/GCLRn (in), 40 INPUT/OE2n (in)
part D pins: 9 VCC (power), 17 VCC (power), 29 VCC (power), 41 VCC (power)
part E pins: 4 GND (power), 16 GND (power), 24 GND (power), 36 GND (power)
part A text: BANK A
part B text: BANK B

## EPM7032TC44-12
designator U?
MAX 7000 5V CPLD, 32 Macrocells, 44-Pin TQFP, Speed Grade 12, Commercial Grade; Published: 24-Nov-2000; LatestRevisionDate: 13-Apr-2006; LatestRevisionNote: IPC-7351 Footprint Added.; DatasheetVersion: ver6.7, Sep-2005; PackageVersion: ver14.3, Jul-2006; PackageReference: TQFP44; Publisher: Altium Limited; PackageDescription: 44-Pin Plastic Thin Quad Flat Pack (TFQP44); Code_JEDEC: MS-026-ACB; ComponentLink1Description: Manufacturer Link; ComponentLink1URL: http://www.altera.com/products/devices/max7k/m7k-index.html; ComponentLink2Description: Datasheet; ComponentLink2URL: http://www.altera.com/literature/ds/m7000.pdf; ComponentLink3Description: Packaging Specification; ComponentLink3URL: http://www.altera.com/literature/ds/dspkg.pdf
footprint TQFP44_N (Thin QFP, 44-Leads, Body 10x10mm, Pitch 0.8mm, IPC Medium Density)
footprint TQFP44_L (Thin QFP, 44-Leads, Body 10x10mm, Pitch 0.8mm, IPC High Density)
footprint TQFP44_M (Thin QFP, 44-Leads, Body 10x10mm, Pitch 0.8mm, IPC Low Density)
3D model EPM7032-TQFP44 (44-Pin Plastic Thin Quad Flat Pack (TFQP44))
signal-integrity model 7k (MAX 7000S)
part A pins: 1 IO (io), 2 IO (io), 3 IO (io), 5 IO (io), 6 IO (io), 7 IO (io), 8 IO (io), 10 IO (io), 11 IO (io), 12 IO (io), 13 IO (io), 14 IO (io), 15 IO (io), 42 IO (io), 43 IO (io), 44 IO (io)
part B pins: 18 IO (io), 19 IO (io), 20 IO (io), 21 IO (io), 22 IO (io), 23 IO (io), 25 IO (io), 26 IO (io), 27 IO (io), 28 IO (io), 30 IO (io), 31 IO (io), 32 IO (io), 33 IO (io), 34 IO (io), 35 IO (io)
part C pins: 37 INPUT/GCLK (in), 38 INPUT/OE1n (in), 39 INPUT/GCLRn (in), 40 INPUT/OE2n (in)
part D pins: 9 VCC (power), 17 VCC (power), 29 VCC (power), 41 VCC (power)
part E pins: 4 GND (power), 16 GND (power), 24 GND (power), 36 GND (power)
part A text: BANK A
part B text: BANK B

## EPM7032TC44-15
designator U?
MAX 7000 5V CPLD, 32 Macrocells, 44-Pin TQFP, Speed Grade 15, Commercial Grade; Published: 24-Nov-2000; LatestRevisionDate: 13-Apr-2006; LatestRevisionNote: IPC-7351 Footprint Added.; DatasheetVersion: ver6.7, Sep-2005; PackageVersion: ver14.3, Jul-2006; PackageReference: TQFP44; Publisher: Altium Limited; PackageDescription: 44-Pin Plastic Thin Quad Flat Pack (TFQP44); Supplier 1: Digi-Key; Supplier Part Number 1: 544-2294-ND; Code_JEDEC: MS-026-ACB; ComponentLink1Description: Manufacturer Link; ComponentLink1URL: http://www.altera.com/products/devices/max7k/m7k-index.html; ComponentLink2Description: Datasheet; ComponentLink2URL: http://www.altera.com/literature/ds/m7000.pdf; ComponentLink3Description: Packaging Specification; ComponentLink3URL: http://www.altera.com/literature/ds/dspkg.pdf
footprint TQFP44_N (Thin QFP, 44-Leads, Body 10x10mm, Pitch 0.8mm, IPC Medium Density)
footprint TQFP44_L (Thin QFP, 44-Leads, Body 10x10mm, Pitch 0.8mm, IPC High Density)
footprint TQFP44_M (Thin QFP, 44-Leads, Body 10x10mm, Pitch 0.8mm, IPC Low Density)
3D model EPM7032-TQFP44 (44-Pin Plastic Thin Quad Flat Pack (TFQP44))
signal-integrity model 7k (MAX 7000S)
part A pins: 1 IO (io), 2 IO (io), 3 IO (io), 5 IO (io), 6 IO (io), 7 IO (io), 8 IO (io), 10 IO (io), 11 IO (io), 12 IO (io), 13 IO (io), 14 IO (io), 15 IO (io), 42 IO (io), 43 IO (io), 44 IO (io)
part B pins: 18 IO (io), 19 IO (io), 20 IO (io), 21 IO (io), 22 IO (io), 23 IO (io), 25 IO (io), 26 IO (io), 27 IO (io), 28 IO (io), 30 IO (io), 31 IO (io), 32 IO (io), 33 IO (io), 34 IO (io), 35 IO (io)
part C pins: 37 INPUT/GCLK (in), 38 INPUT/OE1n (in), 39 INPUT/GCLRn (in), 40 INPUT/OE2n (in)
part D pins: 9 VCC (power), 17 VCC (power), 29 VCC (power), 41 VCC (power)
part E pins: 4 GND (power), 16 GND (power), 24 GND (power), 36 GND (power)
part A text: BANK A
part B text: BANK B

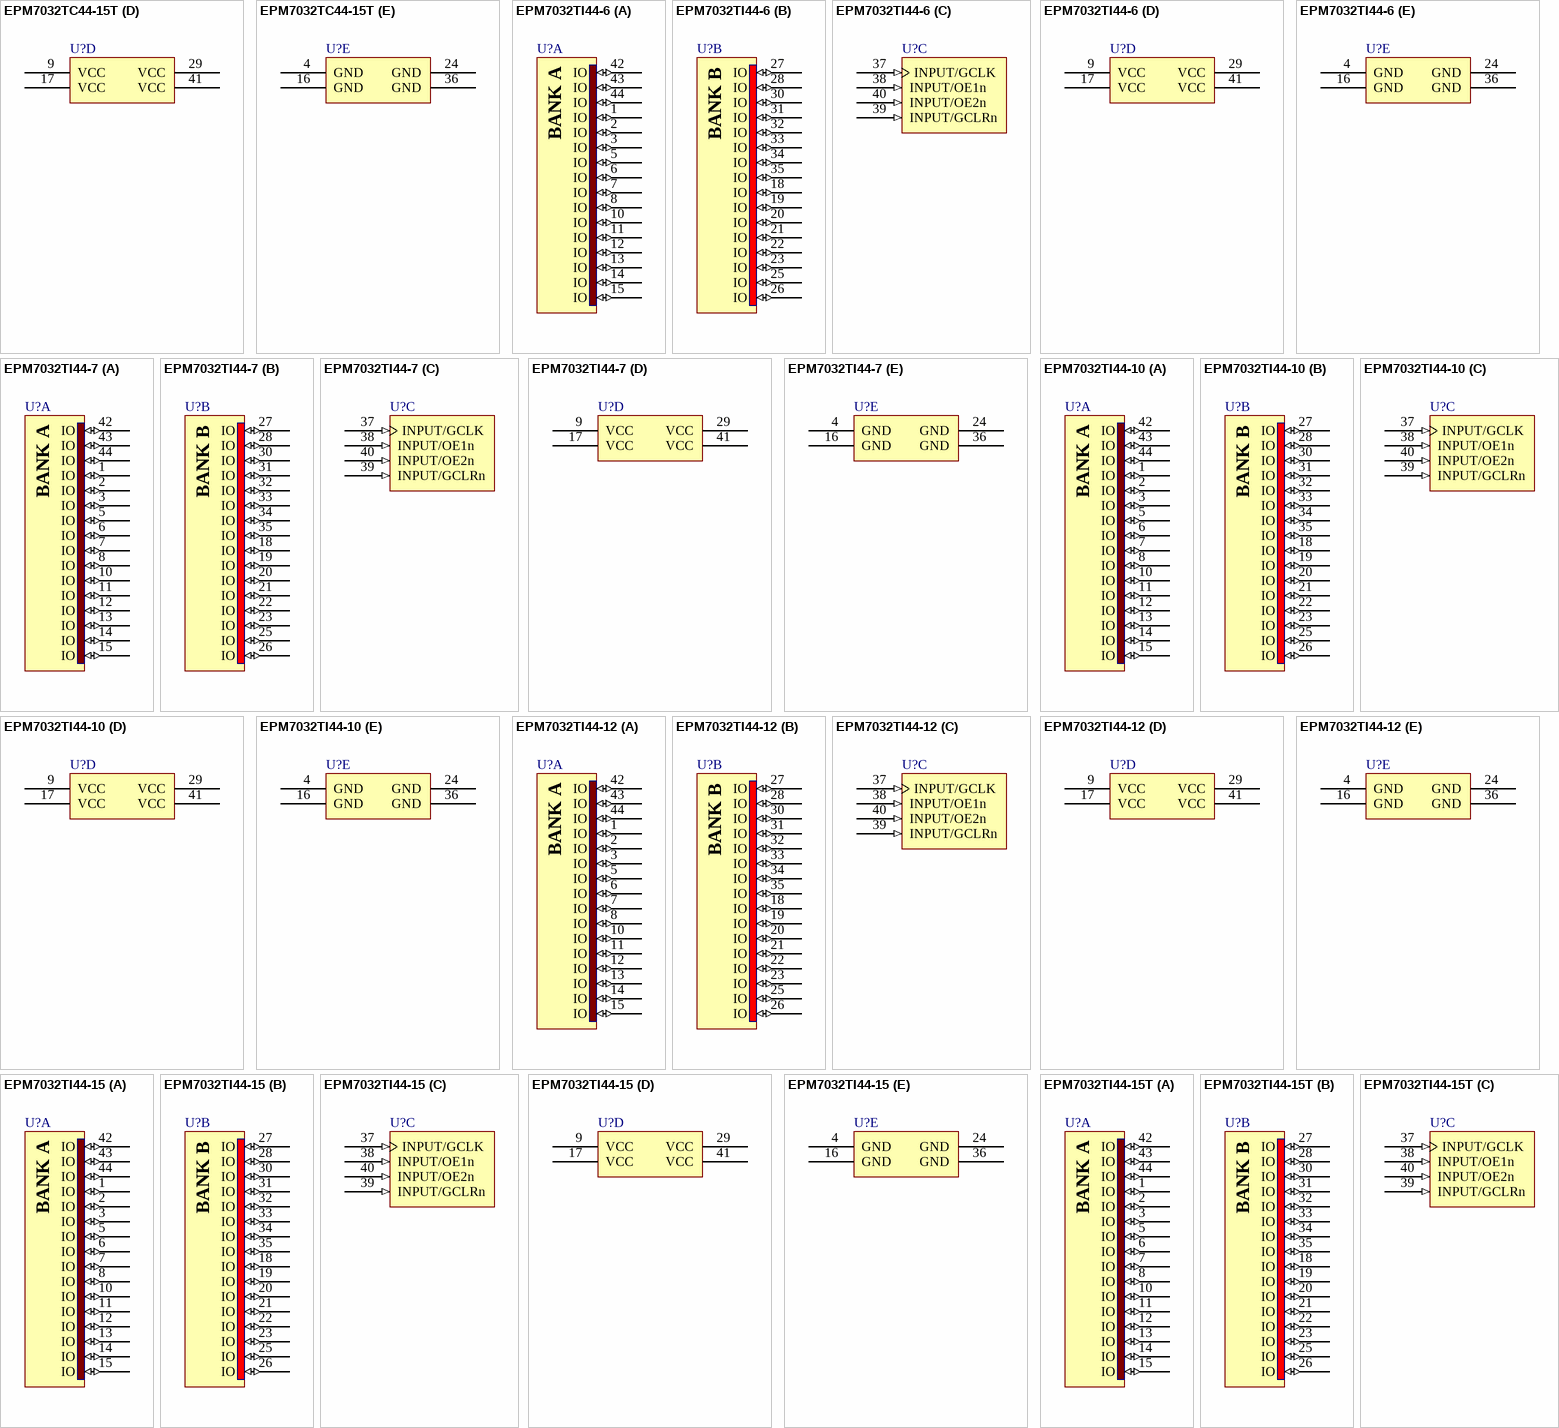
[diagram p8: symbols EPM7032TC44-15T to EPM7032TI44-15T]

## EPM7032TC44-15T
designator U?
MAX 7000 5V CPLD, 32 Macrocells, 44-Pin TQFP, Speed Grade 15T, Commercial Grade; Published: 24-Nov-2000; LatestRevisionDate: 13-Apr-2006; LatestRevisionNote: IPC-7351 Footprint Added.; DatasheetVersion: ver6.7, Sep-2005; PackageVersion: ver14.3, Jul-2006; PackageReference: TQFP44; Publisher: Altium Limited; PackageDescription: 44-Pin Plastic Thin Quad Flat Pack (TFQP44); Code_JEDEC: MS-026-ACB; ComponentLink1Description: Manufacturer Link; ComponentLink1URL: http://www.altera.com/products/devices/max7k/m7k-index.html; ComponentLink2Description: Datasheet; ComponentLink2URL: http://www.altera.com/literature/ds/m7000.pdf; ComponentLink3Description: Packaging Specification; ComponentLink3URL: http://www.altera.com/literature/ds/dspkg.pdf
footprint TQFP44_N (Thin QFP, 44-Leads, Body 10x10mm, Pitch 0.8mm, IPC Medium Density)
footprint TQFP44_L (Thin QFP, 44-Leads, Body 10x10mm, Pitch 0.8mm, IPC High Density)
footprint TQFP44_M (Thin QFP, 44-Leads, Body 10x10mm, Pitch 0.8mm, IPC Low Density)
3D model EPM7032-TQFP44 (44-Pin Plastic Thin Quad Flat Pack (TFQP44))
signal-integrity model 7k (MAX 7000S)
part A pins: 1 IO (io), 2 IO (io), 3 IO (io), 5 IO (io), 6 IO (io), 7 IO (io), 8 IO (io), 10 IO (io), 11 IO (io), 12 IO (io), 13 IO (io), 14 IO (io), 15 IO (io), 42 IO (io), 43 IO (io), 44 IO (io)
part B pins: 18 IO (io), 19 IO (io), 20 IO (io), 21 IO (io), 22 IO (io), 23 IO (io), 25 IO (io), 26 IO (io), 27 IO (io), 28 IO (io), 30 IO (io), 31 IO (io), 32 IO (io), 33 IO (io), 34 IO (io), 35 IO (io)
part C pins: 37 INPUT/GCLK (in), 38 INPUT/OE1n (in), 39 INPUT/GCLRn (in), 40 INPUT/OE2n (in)
part D pins: 9 VCC (power), 17 VCC (power), 29 VCC (power), 41 VCC (power)
part E pins: 4 GND (power), 16 GND (power), 24 GND (power), 36 GND (power)
part A text: BANK A
part B text: BANK B

## EPM7032TI44-6
designator U?
MAX 7000 5V CPLD, 32 Macrocells, 44-Pin TQFP, Speed Grade 6, Industrial Grade; Published: 17-Sep-2003; LatestRevisionDate: 13-Apr-2006; LatestRevisionNote: IPC-7351 Footprint Added.; DatasheetVersion: ver6.7, Sep-2005; PackageVersion: ver14.3, Jul-2006; PackageReference: TQFP44; Publisher: Altium Limited; PackageDescription: 44-Pin Plastic Thin Quad Flat Pack (TFQP44); Code_JEDEC: MS-026-ACB; ComponentLink1Description: Manufacturer Link; ComponentLink1URL: http://www.altera.com/products/devices/max7k/m7k-index.html; ComponentLink2Description: Datasheet; ComponentLink2URL: http://www.altera.com/literature/ds/m7000.pdf; ComponentLink3Description: Packaging Specification; ComponentLink3URL: http://www.altera.com/literature/ds/dspkg.pdf
footprint TQFP44_N (Thin QFP, 44-Leads, Body 10x10mm, Pitch 0.8mm, IPC Medium Density)
footprint TQFP44_L (Thin QFP, 44-Leads, Body 10x10mm, Pitch 0.8mm, IPC High Density)
footprint TQFP44_M (Thin QFP, 44-Leads, Body 10x10mm, Pitch 0.8mm, IPC Low Density)
3D model EPM7032-TQFP44 (44-Pin Plastic Thin Quad Flat Pack (TFQP44))
signal-integrity model 7k (MAX 7000S)
part A pins: 1 IO (io), 2 IO (io), 3 IO (io), 5 IO (io), 6 IO (io), 7 IO (io), 8 IO (io), 10 IO (io), 11 IO (io), 12 IO (io), 13 IO (io), 14 IO (io), 15 IO (io), 42 IO (io), 43 IO (io), 44 IO (io)
part B pins: 18 IO (io), 19 IO (io), 20 IO (io), 21 IO (io), 22 IO (io), 23 IO (io), 25 IO (io), 26 IO (io), 27 IO (io), 28 IO (io), 30 IO (io), 31 IO (io), 32 IO (io), 33 IO (io), 34 IO (io), 35 IO (io)
part C pins: 37 INPUT/GCLK (in), 38 INPUT/OE1n (in), 39 INPUT/GCLRn (in), 40 INPUT/OE2n (in)
part D pins: 9 VCC (power), 17 VCC (power), 29 VCC (power), 41 VCC (power)
part E pins: 4 GND (power), 16 GND (power), 24 GND (power), 36 GND (power)
part A text: BANK A
part B text: BANK B

## EPM7032TI44-7
designator U?
MAX 7000 5V CPLD, 32 Macrocells, 44-Pin TQFP, Speed Grade 7, Industrial Grade; Published: 17-Sep-2003; LatestRevisionDate: 13-Apr-2006; LatestRevisionNote: IPC-7351 Footprint Added.; DatasheetVersion: ver6.7, Sep-2005; PackageVersion: ver14.3, Jul-2006; PackageReference: TQFP44; Publisher: Altium Limited; PackageDescription: 44-Pin Plastic Thin Quad Flat Pack (TFQP44); Code_JEDEC: MS-026-ACB; ComponentLink1Description: Manufacturer Link; ComponentLink1URL: http://www.altera.com/products/devices/max7k/m7k-index.html; ComponentLink2Description: Datasheet; ComponentLink2URL: http://www.altera.com/literature/ds/m7000.pdf; ComponentLink3Description: Packaging Specification; ComponentLink3URL: http://www.altera.com/literature/ds/dspkg.pdf
footprint TQFP44_N (Thin QFP, 44-Leads, Body 10x10mm, Pitch 0.8mm, IPC Medium Density)
footprint TQFP44_L (Thin QFP, 44-Leads, Body 10x10mm, Pitch 0.8mm, IPC High Density)
footprint TQFP44_M (Thin QFP, 44-Leads, Body 10x10mm, Pitch 0.8mm, IPC Low Density)
3D model EPM7032-TQFP44 (44-Pin Plastic Thin Quad Flat Pack (TFQP44))
signal-integrity model 7k (MAX 7000S)
part A pins: 1 IO (io), 2 IO (io), 3 IO (io), 5 IO (io), 6 IO (io), 7 IO (io), 8 IO (io), 10 IO (io), 11 IO (io), 12 IO (io), 13 IO (io), 14 IO (io), 15 IO (io), 42 IO (io), 43 IO (io), 44 IO (io)
part B pins: 18 IO (io), 19 IO (io), 20 IO (io), 21 IO (io), 22 IO (io), 23 IO (io), 25 IO (io), 26 IO (io), 27 IO (io), 28 IO (io), 30 IO (io), 31 IO (io), 32 IO (io), 33 IO (io), 34 IO (io), 35 IO (io)
part C pins: 37 INPUT/GCLK (in), 38 INPUT/OE1n (in), 39 INPUT/GCLRn (in), 40 INPUT/OE2n (in)
part D pins: 9 VCC (power), 17 VCC (power), 29 VCC (power), 41 VCC (power)
part E pins: 4 GND (power), 16 GND (power), 24 GND (power), 36 GND (power)
part A text: BANK A
part B text: BANK B

## EPM7032TI44-10
designator U?
MAX 7000 5V CPLD, 32 Macrocells, 44-Pin TQFP, Speed Grade 10, Industrial Grade; Published: 17-Sep-2003; LatestRevisionDate: 13-Apr-2006; LatestRevisionNote: IPC-7351 Footprint Added.; DatasheetVersion: ver6.7, Sep-2005; PackageVersion: ver14.3, Jul-2006; PackageReference: TQFP44; Publisher: Altium Limited; PackageDescription: 44-Pin Plastic Thin Quad Flat Pack (TFQP44); Code_JEDEC: MS-026-ACB; ComponentLink1Description: Manufacturer Link; ComponentLink1URL: http://www.altera.com/products/devices/max7k/m7k-index.html; ComponentLink2Description: Datasheet; ComponentLink2URL: http://www.altera.com/literature/ds/m7000.pdf; ComponentLink3Description: Packaging Specification; ComponentLink3URL: http://www.altera.com/literature/ds/dspkg.pdf
footprint TQFP44_N (Thin QFP, 44-Leads, Body 10x10mm, Pitch 0.8mm, IPC Medium Density)
footprint TQFP44_L (Thin QFP, 44-Leads, Body 10x10mm, Pitch 0.8mm, IPC High Density)
footprint TQFP44_M (Thin QFP, 44-Leads, Body 10x10mm, Pitch 0.8mm, IPC Low Density)
3D model EPM7032-TQFP44 (44-Pin Plastic Thin Quad Flat Pack (TFQP44))
signal-integrity model 7k (MAX 7000S)
part A pins: 1 IO (io), 2 IO (io), 3 IO (io), 5 IO (io), 6 IO (io), 7 IO (io), 8 IO (io), 10 IO (io), 11 IO (io), 12 IO (io), 13 IO (io), 14 IO (io), 15 IO (io), 42 IO (io), 43 IO (io), 44 IO (io)
part B pins: 18 IO (io), 19 IO (io), 20 IO (io), 21 IO (io), 22 IO (io), 23 IO (io), 25 IO (io), 26 IO (io), 27 IO (io), 28 IO (io), 30 IO (io), 31 IO (io), 32 IO (io), 33 IO (io), 34 IO (io), 35 IO (io)
part C pins: 37 INPUT/GCLK (in), 38 INPUT/OE1n (in), 39 INPUT/GCLRn (in), 40 INPUT/OE2n (in)
part D pins: 9 VCC (power), 17 VCC (power), 29 VCC (power), 41 VCC (power)
part E pins: 4 GND (power), 16 GND (power), 24 GND (power), 36 GND (power)
part A text: BANK A
part B text: BANK B

## EPM7032TI44-12
designator U?
MAX 7000 5V CPLD, 32 Macrocells, 44-Pin TQFP, Speed Grade 12, Industrial Grade; Published: 24-Nov-2000; LatestRevisionDate: 13-Apr-2006; LatestRevisionNote: IPC-7351 Footprint Added.; DatasheetVersion: ver6.7, Sep-2005; PackageVersion: ver14.3, Jul-2006; PackageReference: TQFP44; Publisher: Altium Limited; PackageDescription: 44-Pin Plastic Thin Quad Flat Pack (TFQP44); Code_JEDEC: MS-026-ACB; ComponentLink1Description: Manufacturer Link; ComponentLink1URL: http://www.altera.com/products/devices/max7k/m7k-index.html; ComponentLink2Description: Datasheet; ComponentLink2URL: http://www.altera.com/literature/ds/m7000.pdf; ComponentLink3Description: Packaging Specification; ComponentLink3URL: http://www.altera.com/literature/ds/dspkg.pdf
footprint TQFP44_N (Thin QFP, 44-Leads, Body 10x10mm, Pitch 0.8mm, IPC Medium Density)
footprint TQFP44_L (Thin QFP, 44-Leads, Body 10x10mm, Pitch 0.8mm, IPC High Density)
footprint TQFP44_M (Thin QFP, 44-Leads, Body 10x10mm, Pitch 0.8mm, IPC Low Density)
3D model EPM7032-TQFP44 (44-Pin Plastic Thin Quad Flat Pack (TFQP44))
signal-integrity model 7k (MAX 7000S)
part A pins: 1 IO (io), 2 IO (io), 3 IO (io), 5 IO (io), 6 IO (io), 7 IO (io), 8 IO (io), 10 IO (io), 11 IO (io), 12 IO (io), 13 IO (io), 14 IO (io), 15 IO (io), 42 IO (io), 43 IO (io), 44 IO (io)
part B pins: 18 IO (io), 19 IO (io), 20 IO (io), 21 IO (io), 22 IO (io), 23 IO (io), 25 IO (io), 26 IO (io), 27 IO (io), 28 IO (io), 30 IO (io), 31 IO (io), 32 IO (io), 33 IO (io), 34 IO (io), 35 IO (io)
part C pins: 37 INPUT/GCLK (in), 38 INPUT/OE1n (in), 39 INPUT/GCLRn (in), 40 INPUT/OE2n (in)
part D pins: 9 VCC (power), 17 VCC (power), 29 VCC (power), 41 VCC (power)
part E pins: 4 GND (power), 16 GND (power), 24 GND (power), 36 GND (power)
part A text: BANK A
part B text: BANK B

## EPM7032TI44-15
designator U?
MAX 7000 5V CPLD, 32 Macrocells, 44-Pin TQFP, Speed Grade 15, Industrial Grade; Published: 24-Nov-2000; LatestRevisionDate: 13-Apr-2006; LatestRevisionNote: IPC-7351 Footprint Added.; DatasheetVersion: ver6.7, Sep-2005; PackageVersion: ver14.3, Jul-2006; PackageReference: TQFP44; Publisher: Altium Limited; PackageDescription: 44-Pin Plastic Thin Quad Flat Pack (TFQP44); Code_JEDEC: MS-026-ACB; ComponentLink1Description: Manufacturer Link; ComponentLink1URL: http://www.altera.com/products/devices/max7k/m7k-index.html; ComponentLink2Description: Datasheet; ComponentLink2URL: http://www.altera.com/literature/ds/m7000.pdf; ComponentLink3Description: Packaging Specification; ComponentLink3URL: http://www.altera.com/literature/ds/dspkg.pdf
footprint TQFP44_N (Thin QFP, 44-Leads, Body 10x10mm, Pitch 0.8mm, IPC Medium Density)
footprint TQFP44_L (Thin QFP, 44-Leads, Body 10x10mm, Pitch 0.8mm, IPC High Density)
footprint TQFP44_M (Thin QFP, 44-Leads, Body 10x10mm, Pitch 0.8mm, IPC Low Density)
3D model EPM7032-TQFP44 (44-Pin Plastic Thin Quad Flat Pack (TFQP44))
signal-integrity model 7k (MAX 7000S)
part A pins: 1 IO (io), 2 IO (io), 3 IO (io), 5 IO (io), 6 IO (io), 7 IO (io), 8 IO (io), 10 IO (io), 11 IO (io), 12 IO (io), 13 IO (io), 14 IO (io), 15 IO (io), 42 IO (io), 43 IO (io), 44 IO (io)
part B pins: 18 IO (io), 19 IO (io), 20 IO (io), 21 IO (io), 22 IO (io), 23 IO (io), 25 IO (io), 26 IO (io), 27 IO (io), 28 IO (io), 30 IO (io), 31 IO (io), 32 IO (io), 33 IO (io), 34 IO (io), 35 IO (io)
part C pins: 37 INPUT/GCLK (in), 38 INPUT/OE1n (in), 39 INPUT/GCLRn (in), 40 INPUT/OE2n (in)
part D pins: 9 VCC (power), 17 VCC (power), 29 VCC (power), 41 VCC (power)
part E pins: 4 GND (power), 16 GND (power), 24 GND (power), 36 GND (power)
part A text: BANK A
part B text: BANK B

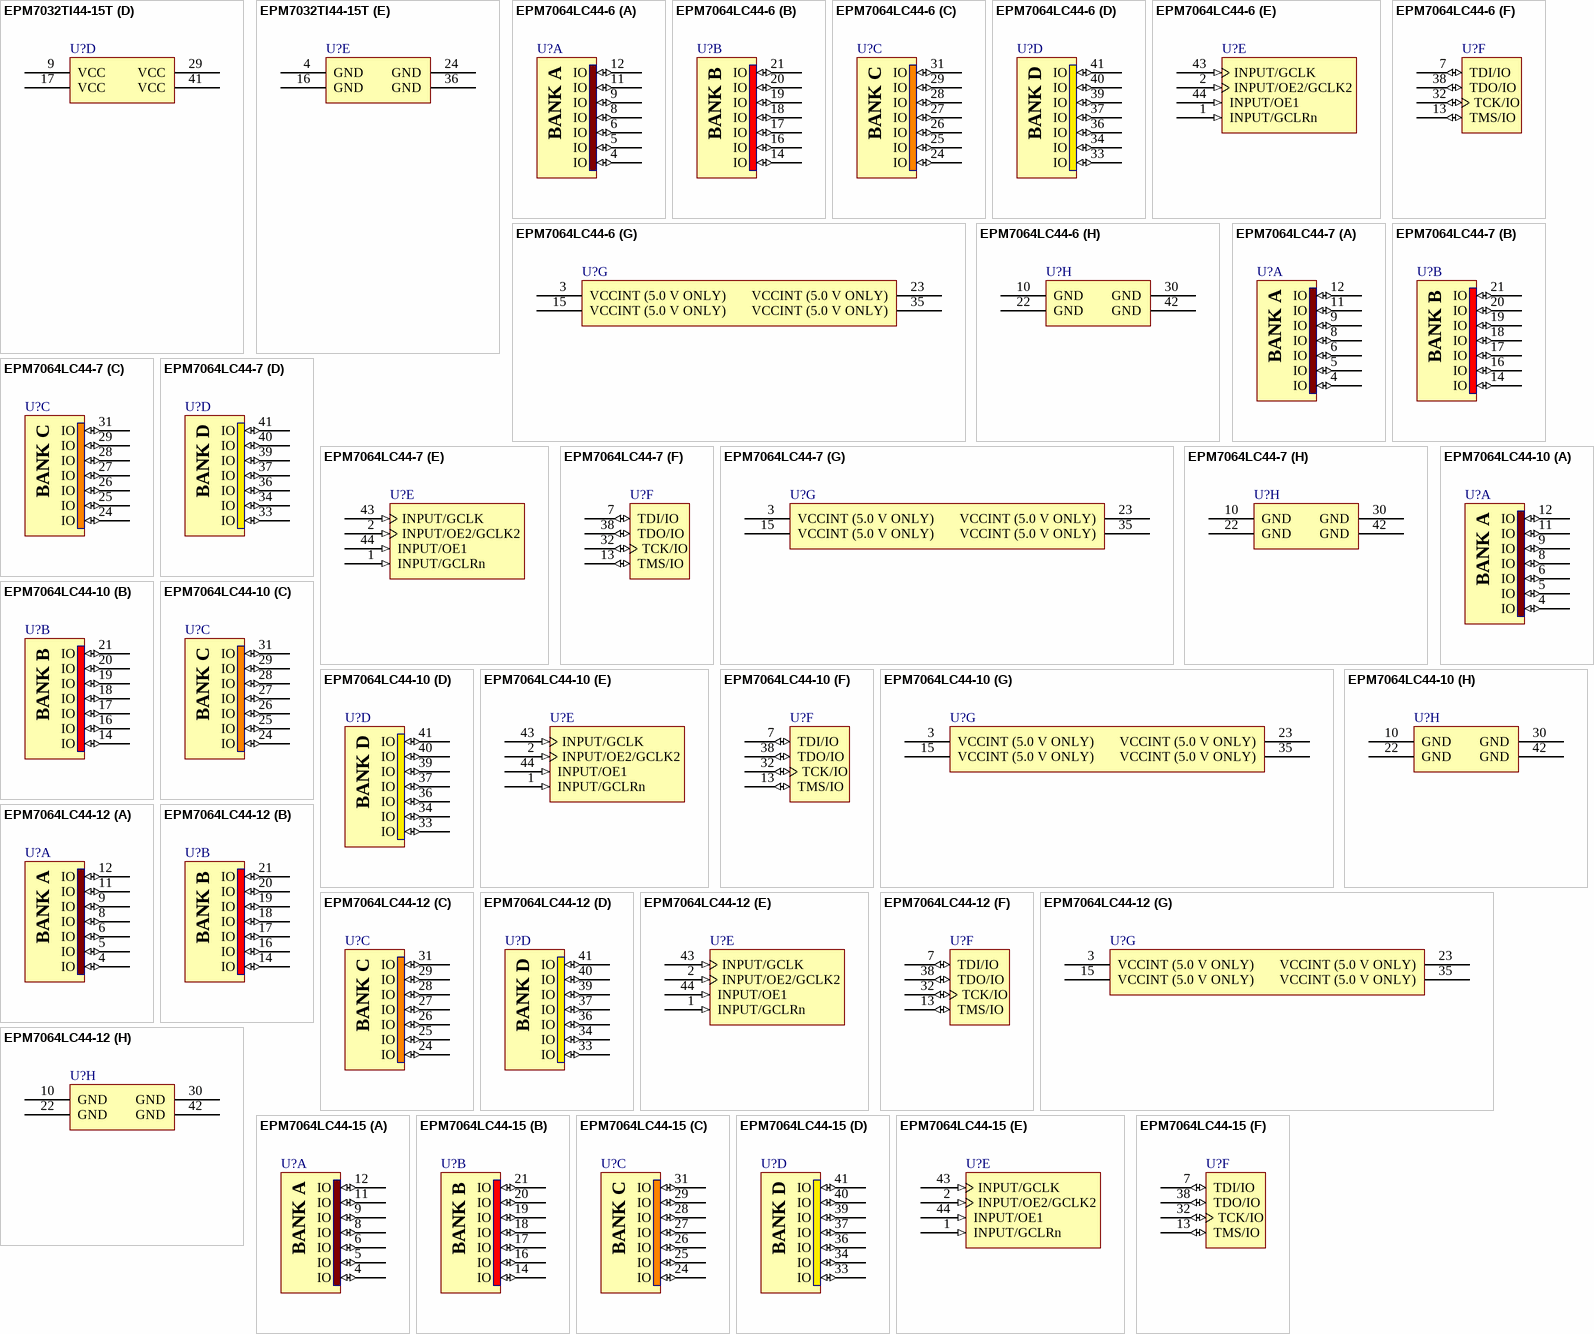
[diagram p9: symbols EPM7032TI44-15T to EPM7064LC44-15]

## EPM7032TI44-15T
designator U?
MAX 7000 5V CPLD, 32 Macrocells, 44-Pin TQFP, Speed Grade 15T, Industrial Grade; Published: 17-Sep-2003; LatestRevisionDate: 13-Apr-2006; LatestRevisionNote: IPC-7351 Footprint Added.; DatasheetVersion: ver6.7, Sep-2005; PackageVersion: ver14.3, Jul-2006; PackageReference: TQFP44; Publisher: Altium Limited; PackageDescription: 44-Pin Plastic Thin Quad Flat Pack (TFQP44); Code_JEDEC: MS-026-ACB; ComponentLink1Description: Manufacturer Link; ComponentLink1URL: http://www.altera.com/products/devices/max7k/m7k-index.html; ComponentLink2Description: Datasheet; ComponentLink2URL: http://www.altera.com/literature/ds/m7000.pdf; ComponentLink3Description: Packaging Specification; ComponentLink3URL: http://www.altera.com/literature/ds/dspkg.pdf
footprint TQFP44_N (Thin QFP, 44-Leads, Body 10x10mm, Pitch 0.8mm, IPC Medium Density)
footprint TQFP44_L (Thin QFP, 44-Leads, Body 10x10mm, Pitch 0.8mm, IPC High Density)
footprint TQFP44_M (Thin QFP, 44-Leads, Body 10x10mm, Pitch 0.8mm, IPC Low Density)
3D model EPM7032-TQFP44 (44-Pin Plastic Thin Quad Flat Pack (TFQP44))
signal-integrity model 7k (MAX 7000S)
part A pins: 1 IO (io), 2 IO (io), 3 IO (io), 5 IO (io), 6 IO (io), 7 IO (io), 8 IO (io), 10 IO (io), 11 IO (io), 12 IO (io), 13 IO (io), 14 IO (io), 15 IO (io), 42 IO (io), 43 IO (io), 44 IO (io)
part B pins: 18 IO (io), 19 IO (io), 20 IO (io), 21 IO (io), 22 IO (io), 23 IO (io), 25 IO (io), 26 IO (io), 27 IO (io), 28 IO (io), 30 IO (io), 31 IO (io), 32 IO (io), 33 IO (io), 34 IO (io), 35 IO (io)
part C pins: 37 INPUT/GCLK (in), 38 INPUT/OE1n (in), 39 INPUT/GCLRn (in), 40 INPUT/OE2n (in)
part D pins: 9 VCC (power), 17 VCC (power), 29 VCC (power), 41 VCC (power)
part E pins: 4 GND (power), 16 GND (power), 24 GND (power), 36 GND (power)
part A text: BANK A
part B text: BANK B